# Altium integrated library Xilinx XC9500.IntLib: 208 symbols (part 5 of 16)
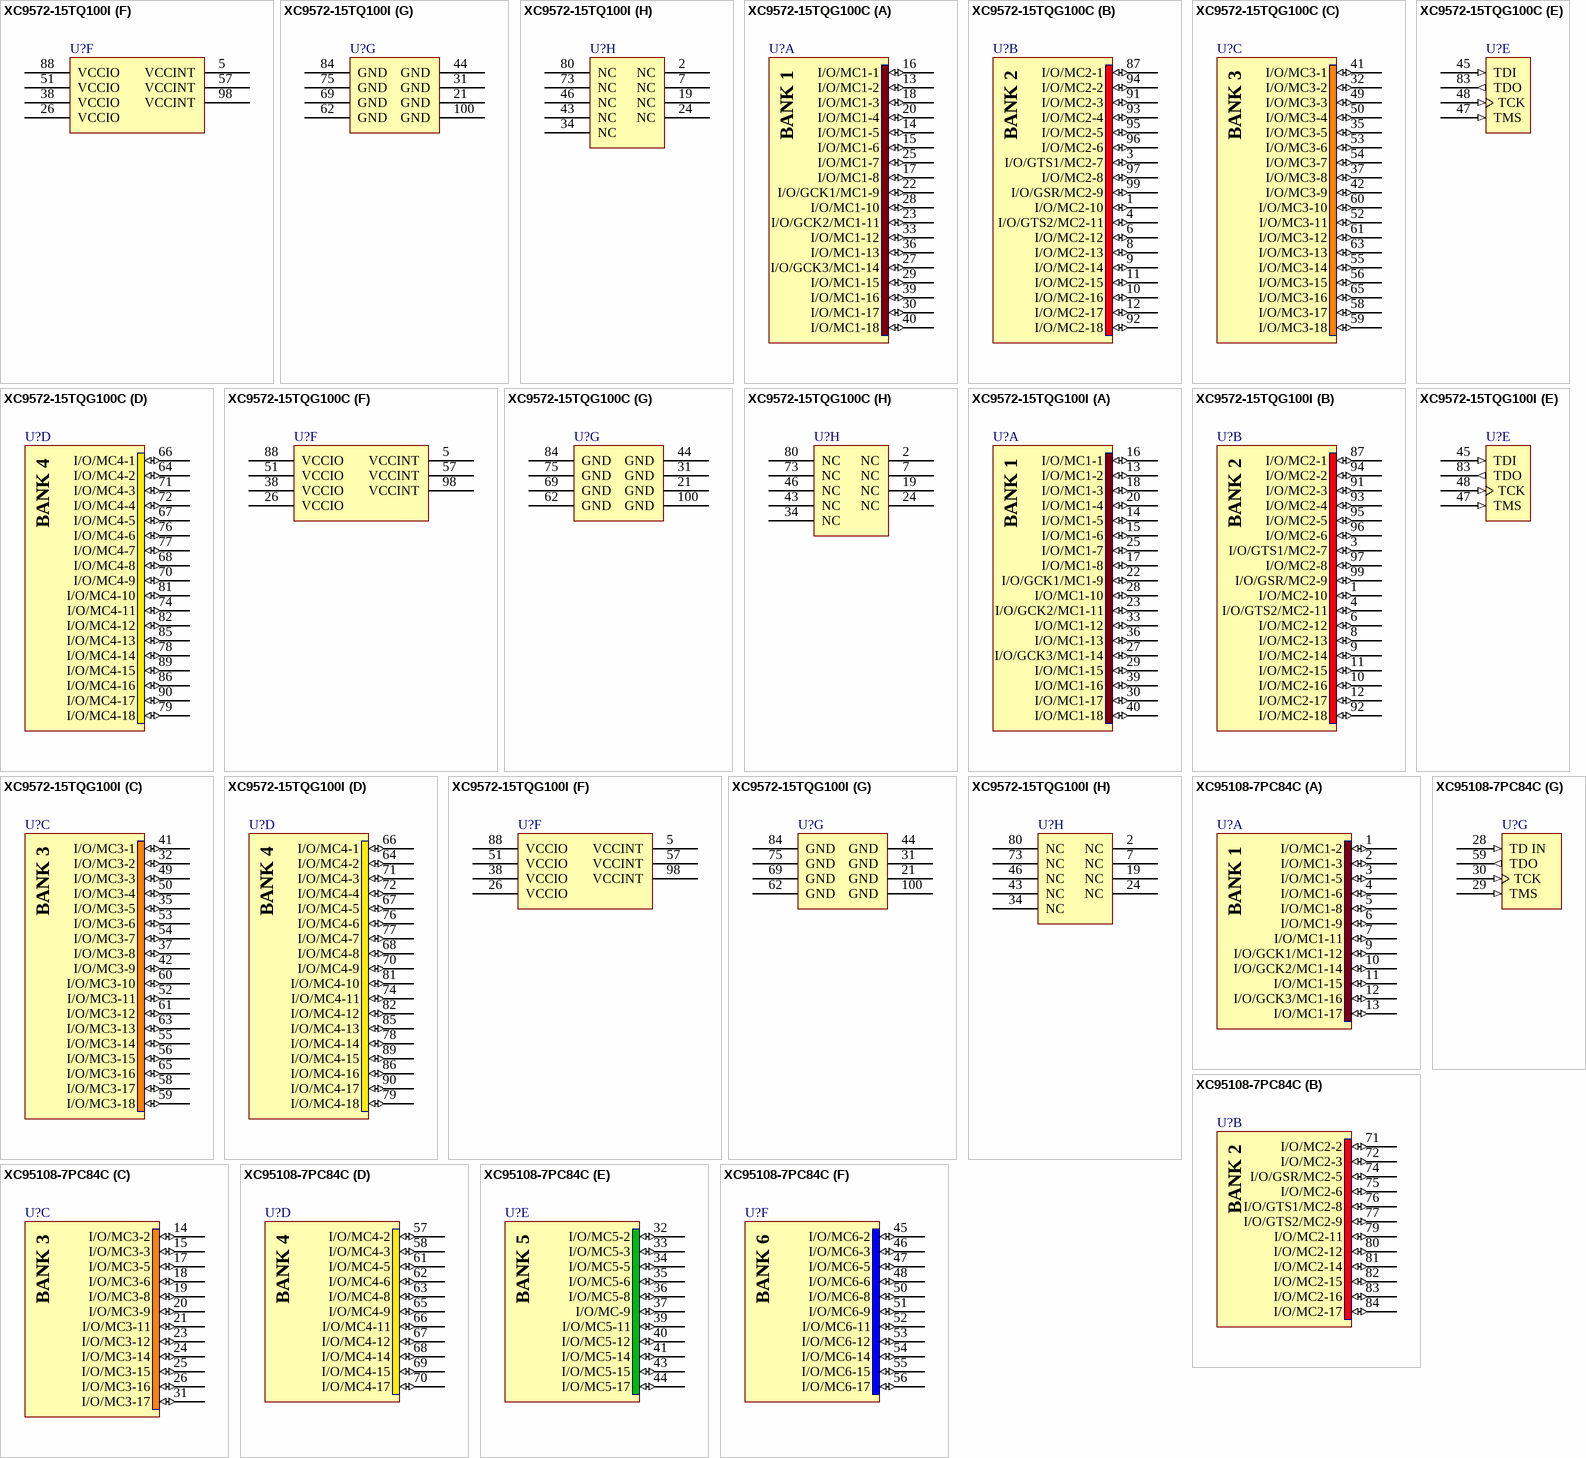
[diagram p77: symbols XC9572-15TQ100I to XC95108-7PC84C]

## XC9572-15TQ100I
designator U?
XC9500 5V, 72 Macrocell CPLD, 72 User I/Os, 100-Pin TQFP, Industrial Grade; Published: 8-Jun-2000; LatestRevisionDate: 18-Nov-2009; LatestRevisionNote: Updated to family datasheet version 5.5 Jun-2007.; DatasheetVersion: ver4.3, Apr-2006; PackageVersion: ver1.2, Jun-2004; PackageReference: TQ100; Publisher: Altium Limited; PackageDescription: 100-Pin Thin Quad Flat Pack (TQ100); Supplier 1: Digi-Key; Supplier Part Number 1: XC9572-15TQ100I-ND; ComponentLink1Description: XC9572 Datasheet; ComponentLink1URL: http://www.xilinx.com/support/documentation/data_sheets/ds065.pdf; ComponentLink2Description: TQ100 Package Drawing; ComponentLink2URL: http://www.xilinx.com/support/documentation/package_specs/tq100.pdf; ComponentLink3Description: XC9500 Documents; ComponentLink3URL: http://www.xilinx.com/support/documentation/xc9500.htm; ComponentLink4Description: Xilinx.com Home; ComponentLink4URL: http://www.xilinx.com
footprint TQ100_N (Thin QFP, 100-Leads, Body 14x14mm, Pitch 0.5mm, IPC Medium Density)
footprint TQ100_L (Thin QFP, 100-Leads, Body 14x14mm, Pitch 0.5mm, IPC High Density)
footprint TQ100_M (Thin QFP, 100-Leads, Body 14x14mm, Pitch 0.5mm, IPC Low Density)
signal-integrity model XC9572_TQ100 (XC9500)
part A pins: 13 I/O/MC1-2 (io), 14 I/O/MC1-5 (io), 15 I/O/MC1-6 (io), 16 I/O/MC1-1 (io), 17 I/O/MC1-8 (io), 18 I/O/MC1-3 (io), 20 I/O/MC1-4 (io), 22 I/O/GCK1/MC1-9 (io), 23 I/O/GCK2/MC1-11 (io), 25 I/O/MC1-7 (io), 27 I/O/GCK3/MC1-14 (io), 28 I/O/MC1-10 (io), 29 I/O/MC1-15 (io), 30 I/O/MC1-17 (io), 33 I/O/MC1-12 (io), 36 I/O/MC1-13 (io), 39 I/O/MC1-16 (io), 40 I/O/MC1-18 (io)
part B pins: 1 I/O/MC2-10 (io), 3 I/O/GTS1/MC2-7 (io), 4 I/O/GTS2/MC2-11 (io), 6 I/O/MC2-12 (io), 8 I/O/MC2-13 (io), 9 I/O/MC2-14 (io), 10 I/O/MC2-16 (io), 11 I/O/MC2-15 (io), 12 I/O/MC2-17 (io), 87 I/O/MC2-1 (io), 91 I/O/MC2-3 (io), 92 I/O/MC2-18 (io), 93 I/O/MC2-4 (io), 94 I/O/MC2-2 (io), 95 I/O/MC2-5 (io), 96 I/O/MC2-6 (io), 97 I/O/MC2-8 (io), 99 I/O/GSR/MC2-9 (io)
part C pins: 32 I/O/MC3-2 (io), 35 I/O/MC3-5 (io), 37 I/O/MC3-8 (io), 41 I/O/MC3-1 (io), 42 I/O/MC3-9 (io), 49 I/O/MC3-3 (io), 50 I/O/MC3-4 (io), 52 I/O/MC3-11 (io), 53 I/O/MC3-6 (io), 54 I/O/MC3-7 (io), 55 I/O/MC3-14 (io), 56 I/O/MC3-15 (io), 58 I/O/MC3-17 (io), 59 I/O/MC3-18 (io), 60 I/O/MC3-10 (io), 61 I/O/MC3-12 (io), 63 I/O/MC3-13 (io), 65 I/O/MC3-16 (io)
part D pins: 64 I/O/MC4-2 (io), 66 I/O/MC4-1 (io), 67 I/O/MC4-5 (io), 68 I/O/MC4-8 (io), 70 I/O/MC4-9 (io), 71 I/O/MC4-3 (io), 72 I/O/MC4-4 (io), 74 I/O/MC4-11 (io), 76 I/O/MC4-6 (io), 77 I/O/MC4-7 (io), 78 I/O/MC4-14 (io), 79 I/O/MC4-18 (io), 81 I/O/MC4-10 (io), 82 I/O/MC4-12 (io), 85 I/O/MC4-13 (io), 86 I/O/MC4-16 (io), 89 I/O/MC4-15 (io), 90 I/O/MC4-17 (io)
part E pins: 45 TDI (in), 47 TMS (in), 48 TCK (in), 83 TDO (out)
part F pins: 5 VCCINT (power), 26 VCCIO (power), 38 VCCIO (power), 51 VCCIO (power), 57 VCCINT (power), 88 VCCIO (power), 98 VCCINT (power)
part G pins: 21 GND (power), 31 GND (power), 44 GND (power), 62 GND (power), 69 GND (power), 75 GND (power), 84 GND (power), 100 GND (power)
part H pins: 2 NC, 7 NC, 19 NC, 24 NC, 34 NC, 43 NC, 46 NC, 73 NC, 80 NC
part A text: BANK 1
part B text: BANK 2
part C text: BANK 3
part D text: BANK 4

## XC9572-15TQG100C
designator U?
XC9500 5V, 72 Macrocell CPLD, 72 User I/Os, 100-Pin TQFP, Commercial Grade, Pb-Free; Published: 8-Sep-2006; LatestRevisionDate: 18-Nov-2009; LatestRevisionNote: Updated to family datasheet version 5.5 Jun-2007.; DatasheetVersion: ver4.3, Apr-2006; PackageVersion: ver1.2, Jun-2004; PackageReference: TQG100; Publisher: Altium Limited; PackageDescription: 100-Pin Thin Quad Flat Pack (TQG100) - Pb-Free; Supplier 1: Digi-Key; Supplier Part Number 1: 122-1446-ND; ComponentLink1Description: XC9572 Datasheet; ComponentLink1URL: http://www.xilinx.com/support/documentation/data_sheets/ds065.pdf; ComponentLink2Description: TQG100 Package Drawing; ComponentLink2URL: http://www.xilinx.com/support/documentation/package_specs/tq100.pdf; ComponentLink3Description: XC9500 Documents; ComponentLink3URL: http://www.xilinx.com/support/documentation/xc9500.htm; ComponentLink4Description: Xilinx.com Home; ComponentLink4URL: http://www.xilinx.com
footprint TQG100_N (Thin QFP, 100-Leads, Body 14x14mm, Pitch 0.5mm, IPC Medium Density)
footprint TQG100_L (Thin QFP, 100-Leads, Body 14x14mm, Pitch 0.5mm, IPC High Density)
footprint TQG100_M (Thin QFP, 100-Leads, Body 14x14mm, Pitch 0.5mm, IPC Low Density)
signal-integrity model XC9572_TQG100 (XC9500)
part A pins: 13 I/O/MC1-2 (io), 14 I/O/MC1-5 (io), 15 I/O/MC1-6 (io), 16 I/O/MC1-1 (io), 17 I/O/MC1-8 (io), 18 I/O/MC1-3 (io), 20 I/O/MC1-4 (io), 22 I/O/GCK1/MC1-9 (io), 23 I/O/GCK2/MC1-11 (io), 25 I/O/MC1-7 (io), 27 I/O/GCK3/MC1-14 (io), 28 I/O/MC1-10 (io), 29 I/O/MC1-15 (io), 30 I/O/MC1-17 (io), 33 I/O/MC1-12 (io), 36 I/O/MC1-13 (io), 39 I/O/MC1-16 (io), 40 I/O/MC1-18 (io)
part B pins: 1 I/O/MC2-10 (io), 3 I/O/GTS1/MC2-7 (io), 4 I/O/GTS2/MC2-11 (io), 6 I/O/MC2-12 (io), 8 I/O/MC2-13 (io), 9 I/O/MC2-14 (io), 10 I/O/MC2-16 (io), 11 I/O/MC2-15 (io), 12 I/O/MC2-17 (io), 87 I/O/MC2-1 (io), 91 I/O/MC2-3 (io), 92 I/O/MC2-18 (io), 93 I/O/MC2-4 (io), 94 I/O/MC2-2 (io), 95 I/O/MC2-5 (io), 96 I/O/MC2-6 (io), 97 I/O/MC2-8 (io), 99 I/O/GSR/MC2-9 (io)
part C pins: 32 I/O/MC3-2 (io), 35 I/O/MC3-5 (io), 37 I/O/MC3-8 (io), 41 I/O/MC3-1 (io), 42 I/O/MC3-9 (io), 49 I/O/MC3-3 (io), 50 I/O/MC3-4 (io), 52 I/O/MC3-11 (io), 53 I/O/MC3-6 (io), 54 I/O/MC3-7 (io), 55 I/O/MC3-14 (io), 56 I/O/MC3-15 (io), 58 I/O/MC3-17 (io), 59 I/O/MC3-18 (io), 60 I/O/MC3-10 (io), 61 I/O/MC3-12 (io), 63 I/O/MC3-13 (io), 65 I/O/MC3-16 (io)
part D pins: 64 I/O/MC4-2 (io), 66 I/O/MC4-1 (io), 67 I/O/MC4-5 (io), 68 I/O/MC4-8 (io), 70 I/O/MC4-9 (io), 71 I/O/MC4-3 (io), 72 I/O/MC4-4 (io), 74 I/O/MC4-11 (io), 76 I/O/MC4-6 (io), 77 I/O/MC4-7 (io), 78 I/O/MC4-14 (io), 79 I/O/MC4-18 (io), 81 I/O/MC4-10 (io), 82 I/O/MC4-12 (io), 85 I/O/MC4-13 (io), 86 I/O/MC4-16 (io), 89 I/O/MC4-15 (io), 90 I/O/MC4-17 (io)
part E pins: 45 TDI (in), 47 TMS (in), 48 TCK (in), 83 TDO (out)
part F pins: 5 VCCINT (power), 26 VCCIO (power), 38 VCCIO (power), 51 VCCIO (power), 57 VCCINT (power), 88 VCCIO (power), 98 VCCINT (power)
part G pins: 21 GND (power), 31 GND (power), 44 GND (power), 62 GND (power), 69 GND (power), 75 GND (power), 84 GND (power), 100 GND (power)
part H pins: 2 NC, 7 NC, 19 NC, 24 NC, 34 NC, 43 NC, 46 NC, 73 NC, 80 NC
part A text: BANK 1
part B text: BANK 2
part C text: BANK 3
part D text: BANK 4

## XC9572-15TQG100I
designator U?
XC9500 5V, 72 Macrocell CPLD, 72 User I/Os, 100-Pin TQFP, Industrial Grade, Pb-Free; Published: 8-Sep-2006; LatestRevisionDate: 18-Nov-2009; LatestRevisionNote: Updated to family datasheet version 5.5 Jun-2007.; DatasheetVersion: ver4.3, Apr-2006; PackageVersion: ver1.2, Jun-2004; PackageReference: TQG100; Publisher: Altium Limited; PackageDescription: 100-Pin Thin Quad Flat Pack (TQG100) - Pb-Free; Supplier 1: Digi-Key; Supplier Part Number 1: XC9572-15TQG100I-ND; ComponentLink1Description: XC9572 Datasheet; ComponentLink1URL: http://www.xilinx.com/support/documentation/data_sheets/ds065.pdf; ComponentLink2Description: TQG100 Package Drawing; ComponentLink2URL: http://www.xilinx.com/support/documentation/package_specs/tq100.pdf; ComponentLink3Description: XC9500 Documents; ComponentLink3URL: http://www.xilinx.com/support/documentation/xc9500.htm; ComponentLink4Description: Xilinx.com Home; ComponentLink4URL: http://www.xilinx.com
footprint TQG100_N (Thin QFP, 100-Leads, Body 14x14mm, Pitch 0.5mm, IPC Medium Density)
footprint TQG100_L (Thin QFP, 100-Leads, Body 14x14mm, Pitch 0.5mm, IPC High Density)
footprint TQG100_M (Thin QFP, 100-Leads, Body 14x14mm, Pitch 0.5mm, IPC Low Density)
signal-integrity model XC9572_TQG100 (XC9500)
part A pins: 13 I/O/MC1-2 (io), 14 I/O/MC1-5 (io), 15 I/O/MC1-6 (io), 16 I/O/MC1-1 (io), 17 I/O/MC1-8 (io), 18 I/O/MC1-3 (io), 20 I/O/MC1-4 (io), 22 I/O/GCK1/MC1-9 (io), 23 I/O/GCK2/MC1-11 (io), 25 I/O/MC1-7 (io), 27 I/O/GCK3/MC1-14 (io), 28 I/O/MC1-10 (io), 29 I/O/MC1-15 (io), 30 I/O/MC1-17 (io), 33 I/O/MC1-12 (io), 36 I/O/MC1-13 (io), 39 I/O/MC1-16 (io), 40 I/O/MC1-18 (io)
part B pins: 1 I/O/MC2-10 (io), 3 I/O/GTS1/MC2-7 (io), 4 I/O/GTS2/MC2-11 (io), 6 I/O/MC2-12 (io), 8 I/O/MC2-13 (io), 9 I/O/MC2-14 (io), 10 I/O/MC2-16 (io), 11 I/O/MC2-15 (io), 12 I/O/MC2-17 (io), 87 I/O/MC2-1 (io), 91 I/O/MC2-3 (io), 92 I/O/MC2-18 (io), 93 I/O/MC2-4 (io), 94 I/O/MC2-2 (io), 95 I/O/MC2-5 (io), 96 I/O/MC2-6 (io), 97 I/O/MC2-8 (io), 99 I/O/GSR/MC2-9 (io)
part C pins: 32 I/O/MC3-2 (io), 35 I/O/MC3-5 (io), 37 I/O/MC3-8 (io), 41 I/O/MC3-1 (io), 42 I/O/MC3-9 (io), 49 I/O/MC3-3 (io), 50 I/O/MC3-4 (io), 52 I/O/MC3-11 (io), 53 I/O/MC3-6 (io), 54 I/O/MC3-7 (io), 55 I/O/MC3-14 (io), 56 I/O/MC3-15 (io), 58 I/O/MC3-17 (io), 59 I/O/MC3-18 (io), 60 I/O/MC3-10 (io), 61 I/O/MC3-12 (io), 63 I/O/MC3-13 (io), 65 I/O/MC3-16 (io)
part D pins: 64 I/O/MC4-2 (io), 66 I/O/MC4-1 (io), 67 I/O/MC4-5 (io), 68 I/O/MC4-8 (io), 70 I/O/MC4-9 (io), 71 I/O/MC4-3 (io), 72 I/O/MC4-4 (io), 74 I/O/MC4-11 (io), 76 I/O/MC4-6 (io), 77 I/O/MC4-7 (io), 78 I/O/MC4-14 (io), 79 I/O/MC4-18 (io), 81 I/O/MC4-10 (io), 82 I/O/MC4-12 (io), 85 I/O/MC4-13 (io), 86 I/O/MC4-16 (io), 89 I/O/MC4-15 (io), 90 I/O/MC4-17 (io)
part E pins: 45 TDI (in), 47 TMS (in), 48 TCK (in), 83 TDO (out)
part F pins: 5 VCCINT (power), 26 VCCIO (power), 38 VCCIO (power), 51 VCCIO (power), 57 VCCINT (power), 88 VCCIO (power), 98 VCCINT (power)
part G pins: 21 GND (power), 31 GND (power), 44 GND (power), 62 GND (power), 69 GND (power), 75 GND (power), 84 GND (power), 100 GND (power)
part H pins: 2 NC, 7 NC, 19 NC, 24 NC, 34 NC, 43 NC, 46 NC, 73 NC, 80 NC
part A text: BANK 1
part B text: BANK 2
part C text: BANK 3
part D text: BANK 4

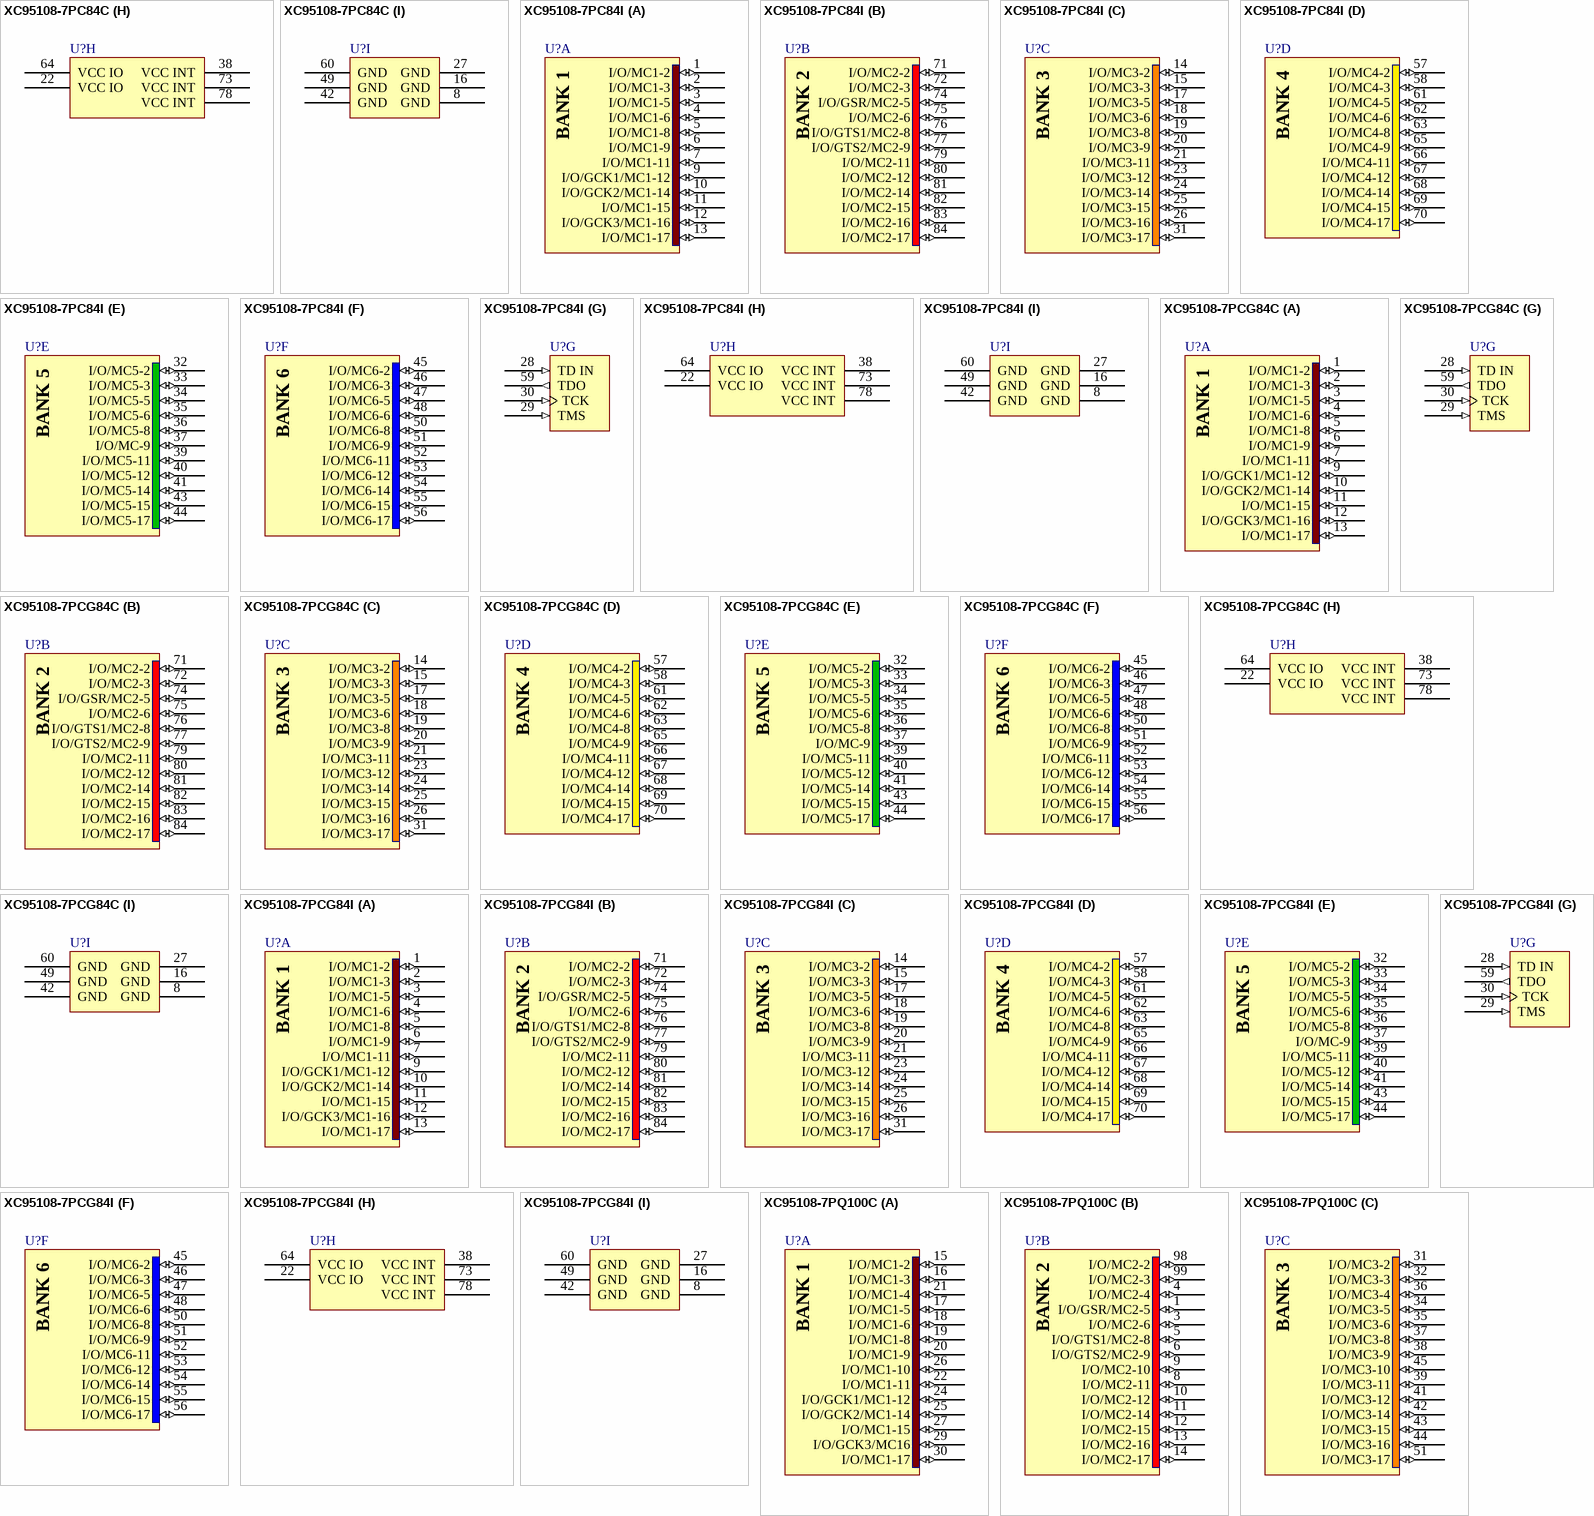
[diagram p19: symbols XC95108-7PC84C to XC95108-7PQ100C]

## XC95108-7PC84C
designator U?
XC9500 5V, 108 Macrocell CPLD, 69 User I/Os, 84-Pin PLCC, Commercial Grade; Published: 8-Jun-2000; LatestRevisionDate: 18-Nov-2009; LatestRevisionNote: Updated to family datasheet version 5.5 Jun-2007.; DatasheetVersion: ver4.4, Apr-2006; PackageVersion: ver1.2, Jun-2004; PackageReference: PC84; Publisher: Altium Limited; PackageDescription: 84-Pin Plastic Leaded Chip Carrier (PC84); Supplier 1: Digi-Key; Supplier Part Number 1: 122-1176-ND; Code_JEDEC: MS-047; Code_IPC: PLCC-84; ComponentLink1Description: XC95108 Datasheet; ComponentLink1URL: http://www.xilinx.com/support/documentation/data_sheets/DS066.pdf; ComponentLink2Description: PC84 Package Drawing; ComponentLink2URL: http://www.xilinx.com/support/documentation/package_specs/pc84.pdf; ComponentLink3Description: XC9500 Documents; ComponentLink3URL: http://www.xilinx.com/support/documentation/xc9500.htm; ComponentLink4Description: Xilinx.com Home; ComponentLink4URL: http://www.xilinx.com
footprint PC84_N (Leaded Chip Carrier, 84-Leads, Body 29.3x29.3mm, Pitch 1.27mm, IPC Medium Density)
footprint PC84_L (Leaded Chip Carrier, 84-Leads, Body 29.3x29.3mm, Pitch 1.27mm, IPC High Density)
footprint PC84_M (Leaded Chip Carrier, 84-Leads, Body 29.3x29.3mm, Pitch 1.27mm, IPC Low Density)
signal-integrity model XC95108_PLCC84 (XC9500)
part A pins: 1 I/O/MC1-2 (io), 2 I/O/MC1-3 (io), 3 I/O/MC1-5 (io), 4 I/O/MC1-6 (io), 5 I/O/MC1-8 (io), 6 I/O/MC1-9 (io), 7 I/O/MC1-11 (io), 9 I/O/GCK1/MC1-12 (io), 10 I/O/GCK2/MC1-14 (io), 11 I/O/MC1-15 (io), 12 I/O/GCK3/MC1-16 (io), 13 I/O/MC1-17 (io)
part B pins: 71 I/O/MC2-2 (io), 72 I/O/MC2-3 (io), 74 I/O/GSR/MC2-5 (io), 75 I/O/MC2-6 (io), 76 I/O/GTS1/MC2-8 (io), 77 I/O/GTS2/MC2-9 (io), 79 I/O/MC2-11 (io), 80 I/O/MC2-12 (io), 81 I/O/MC2-14 (io), 82 I/O/MC2-15 (io), 83 I/O/MC2-16 (io), 84 I/O/MC2-17 (io)
part C pins: 14 I/O/MC3-2 (io), 15 I/O/MC3-3 (io), 17 I/O/MC3-5 (io), 18 I/O/MC3-6 (io), 19 I/O/MC3-8 (io), 20 I/O/MC3-9 (io), 21 I/O/MC3-11 (io), 23 I/O/MC3-12 (io), 24 I/O/MC3-14 (io), 25 I/O/MC3-15 (io), 26 I/O/MC3-16 (io), 31 I/O/MC3-17 (io)
part D pins: 57 I/O/MC4-2 (io), 58 I/O/MC4-3 (io), 61 I/O/MC4-5 (io), 62 I/O/MC4-6 (io), 63 I/O/MC4-8 (io), 65 I/O/MC4-9 (io), 66 I/O/MC4-11 (io), 67 I/O/MC4-12 (io), 68 I/O/MC4-14 (io), 69 I/O/MC4-15 (io), 70 I/O/MC4-17 (io)
part E pins: 32 I/O/MC5-2 (io), 33 I/O/MC5-3 (io), 34 I/O/MC5-5 (io), 35 I/O/MC5-6 (io), 36 I/O/MC5-8 (io), 37 I/O/MC-9 (io), 39 I/O/MC5-11 (io), 40 I/O/MC5-12 (io), 41 I/O/MC5-14 (io), 43 I/O/MC5-15 (io), 44 I/O/MC5-17 (io)
part F pins: 45 I/O/MC6-2 (io), 46 I/O/MC6-3 (io), 47 I/O/MC6-5 (io), 48 I/O/MC6-6 (io), 50 I/O/MC6-8 (io), 51 I/O/MC6-9 (io), 52 I/O/MC6-11 (io), 53 I/O/MC6-12 (io), 54 I/O/MC6-14 (io), 55 I/O/MC6-15 (io), 56 I/O/MC6-17 (io)
part G pins: 28 TD IN (in), 29 TMS (in), 30 TCK (in), 59 TDO (out)
part H pins: 22 VCC IO (power), 38 VCC INT (power), 64 VCC IO (power), 73 VCC INT (power), 78 VCC INT (power)
part I pins: 8 GND (power), 16 GND (power), 27 GND (power), 42 GND (power), 49 GND (power), 60 GND (power)
part A text: BANK 1
part B text: BANK 2
part C text: BANK 3
part D text: BANK 4
part E text: BANK 5
part F text: BANK 6

## XC95108-7PC84I
designator U?
XC9500 5V, 108 Macrocell CPLD, 69 User I/Os, 84-Pin PLCC, Industrial Grade; Published: 17-Sep-2003; LatestRevisionDate: 18-Nov-2009; LatestRevisionNote: Updated to family datasheet version 5.5 Jun-2007.; DatasheetVersion: ver4.4, Apr-2006; PackageVersion: ver1.2, Jun-2004; PackageReference: PC84; Publisher: Altium Limited; PackageDescription: 84-Pin Plastic Leaded Chip Carrier (PC84); Supplier 1: Digi-Key; Supplier Part Number 1: 122-1247-ND; Code_JEDEC: MS-047; Code_IPC: PLCC-84; ComponentLink1Description: XC95108 Datasheet; ComponentLink1URL: http://www.xilinx.com/support/documentation/data_sheets/DS066.pdf; ComponentLink2Description: PC84 Package Drawing; ComponentLink2URL: http://www.xilinx.com/support/documentation/package_specs/pc84.pdf; ComponentLink3Description: XC9500 Documents; ComponentLink3URL: http://www.xilinx.com/support/documentation/xc9500.htm; ComponentLink4Description: Xilinx.com Home; ComponentLink4URL: http://www.xilinx.com
footprint PC84_N (Leaded Chip Carrier, 84-Leads, Body 29.3x29.3mm, Pitch 1.27mm, IPC Medium Density)
footprint PC84_L (Leaded Chip Carrier, 84-Leads, Body 29.3x29.3mm, Pitch 1.27mm, IPC High Density)
footprint PC84_M (Leaded Chip Carrier, 84-Leads, Body 29.3x29.3mm, Pitch 1.27mm, IPC Low Density)
signal-integrity model XC95108_PLCC84 (XC9500)
part A pins: 1 I/O/MC1-2 (io), 2 I/O/MC1-3 (io), 3 I/O/MC1-5 (io), 4 I/O/MC1-6 (io), 5 I/O/MC1-8 (io), 6 I/O/MC1-9 (io), 7 I/O/MC1-11 (io), 9 I/O/GCK1/MC1-12 (io), 10 I/O/GCK2/MC1-14 (io), 11 I/O/MC1-15 (io), 12 I/O/GCK3/MC1-16 (io), 13 I/O/MC1-17 (io)
part B pins: 71 I/O/MC2-2 (io), 72 I/O/MC2-3 (io), 74 I/O/GSR/MC2-5 (io), 75 I/O/MC2-6 (io), 76 I/O/GTS1/MC2-8 (io), 77 I/O/GTS2/MC2-9 (io), 79 I/O/MC2-11 (io), 80 I/O/MC2-12 (io), 81 I/O/MC2-14 (io), 82 I/O/MC2-15 (io), 83 I/O/MC2-16 (io), 84 I/O/MC2-17 (io)
part C pins: 14 I/O/MC3-2 (io), 15 I/O/MC3-3 (io), 17 I/O/MC3-5 (io), 18 I/O/MC3-6 (io), 19 I/O/MC3-8 (io), 20 I/O/MC3-9 (io), 21 I/O/MC3-11 (io), 23 I/O/MC3-12 (io), 24 I/O/MC3-14 (io), 25 I/O/MC3-15 (io), 26 I/O/MC3-16 (io), 31 I/O/MC3-17 (io)
part D pins: 57 I/O/MC4-2 (io), 58 I/O/MC4-3 (io), 61 I/O/MC4-5 (io), 62 I/O/MC4-6 (io), 63 I/O/MC4-8 (io), 65 I/O/MC4-9 (io), 66 I/O/MC4-11 (io), 67 I/O/MC4-12 (io), 68 I/O/MC4-14 (io), 69 I/O/MC4-15 (io), 70 I/O/MC4-17 (io)
part E pins: 32 I/O/MC5-2 (io), 33 I/O/MC5-3 (io), 34 I/O/MC5-5 (io), 35 I/O/MC5-6 (io), 36 I/O/MC5-8 (io), 37 I/O/MC-9 (io), 39 I/O/MC5-11 (io), 40 I/O/MC5-12 (io), 41 I/O/MC5-14 (io), 43 I/O/MC5-15 (io), 44 I/O/MC5-17 (io)
part F pins: 45 I/O/MC6-2 (io), 46 I/O/MC6-3 (io), 47 I/O/MC6-5 (io), 48 I/O/MC6-6 (io), 50 I/O/MC6-8 (io), 51 I/O/MC6-9 (io), 52 I/O/MC6-11 (io), 53 I/O/MC6-12 (io), 54 I/O/MC6-14 (io), 55 I/O/MC6-15 (io), 56 I/O/MC6-17 (io)
part G pins: 28 TD IN (in), 29 TMS (in), 30 TCK (in), 59 TDO (out)
part H pins: 22 VCC IO (power), 38 VCC INT (power), 64 VCC IO (power), 73 VCC INT (power), 78 VCC INT (power)
part I pins: 8 GND (power), 16 GND (power), 27 GND (power), 42 GND (power), 49 GND (power), 60 GND (power)
part A text: BANK 1
part B text: BANK 2
part C text: BANK 3
part D text: BANK 4
part E text: BANK 5
part F text: BANK 6

## XC95108-7PCG84C
designator U?
XC9500 5V, 108 Macrocell CPLD, 69 User I/Os, 84-Pin PLCC, Commercial Grade, Pb-Free; Published: 8-Sep-2006; LatestRevisionDate: 18-Nov-2009; LatestRevisionNote: Updated to family datasheet version 5.5 Jun-2007.; DatasheetVersion: ver4.4, Apr-2006; PackageVersion: ver1.2, Jun-2004; PackageReference: PCG84; Publisher: Altium Limited; PackageDescription: 84-Pin Plastic Leaded Chip Carrier (PCG84) - Pb-Free; Code_JEDEC: MS-047; Code_IPC: PLCC-84; ComponentLink1Description: XC95108 Datasheet; ComponentLink1URL: http://www.xilinx.com/support/documentation/data_sheets/DS066.pdf; ComponentLink2Description: PCG84 Package Drawing; ComponentLink2URL: http://www.xilinx.com/support/documentation/package_specs/pc84.pdf; ComponentLink3Description: XC9500 Documents; ComponentLink3URL: http://www.xilinx.com/support/documentation/xc9500.htm; ComponentLink4Description: Xilinx.com Home; ComponentLink4URL: http://www.xilinx.com
footprint PCG84_N (Leaded Chip Carrier, 84-Leads, Body 29.3x29.3mm, Pitch 1.27mm, IPC Medium Density)
footprint PCG84_L (Leaded Chip Carrier, 84-Leads, Body 29.3x29.3mm, Pitch 1.27mm, IPC High Density)
footprint PCG84_M (Leaded Chip Carrier, 84-Leads, Body 29.3x29.3mm, Pitch 1.27mm, IPC Low Density)
signal-integrity model XC95108_PCG84 (XC9500)
part A pins: 1 I/O/MC1-2 (io), 2 I/O/MC1-3 (io), 3 I/O/MC1-5 (io), 4 I/O/MC1-6 (io), 5 I/O/MC1-8 (io), 6 I/O/MC1-9 (io), 7 I/O/MC1-11 (io), 9 I/O/GCK1/MC1-12 (io), 10 I/O/GCK2/MC1-14 (io), 11 I/O/MC1-15 (io), 12 I/O/GCK3/MC1-16 (io), 13 I/O/MC1-17 (io)
part B pins: 71 I/O/MC2-2 (io), 72 I/O/MC2-3 (io), 74 I/O/GSR/MC2-5 (io), 75 I/O/MC2-6 (io), 76 I/O/GTS1/MC2-8 (io), 77 I/O/GTS2/MC2-9 (io), 79 I/O/MC2-11 (io), 80 I/O/MC2-12 (io), 81 I/O/MC2-14 (io), 82 I/O/MC2-15 (io), 83 I/O/MC2-16 (io), 84 I/O/MC2-17 (io)
part C pins: 14 I/O/MC3-2 (io), 15 I/O/MC3-3 (io), 17 I/O/MC3-5 (io), 18 I/O/MC3-6 (io), 19 I/O/MC3-8 (io), 20 I/O/MC3-9 (io), 21 I/O/MC3-11 (io), 23 I/O/MC3-12 (io), 24 I/O/MC3-14 (io), 25 I/O/MC3-15 (io), 26 I/O/MC3-16 (io), 31 I/O/MC3-17 (io)
part D pins: 57 I/O/MC4-2 (io), 58 I/O/MC4-3 (io), 61 I/O/MC4-5 (io), 62 I/O/MC4-6 (io), 63 I/O/MC4-8 (io), 65 I/O/MC4-9 (io), 66 I/O/MC4-11 (io), 67 I/O/MC4-12 (io), 68 I/O/MC4-14 (io), 69 I/O/MC4-15 (io), 70 I/O/MC4-17 (io)
part E pins: 32 I/O/MC5-2 (io), 33 I/O/MC5-3 (io), 34 I/O/MC5-5 (io), 35 I/O/MC5-6 (io), 36 I/O/MC5-8 (io), 37 I/O/MC-9 (io), 39 I/O/MC5-11 (io), 40 I/O/MC5-12 (io), 41 I/O/MC5-14 (io), 43 I/O/MC5-15 (io), 44 I/O/MC5-17 (io)
part F pins: 45 I/O/MC6-2 (io), 46 I/O/MC6-3 (io), 47 I/O/MC6-5 (io), 48 I/O/MC6-6 (io), 50 I/O/MC6-8 (io), 51 I/O/MC6-9 (io), 52 I/O/MC6-11 (io), 53 I/O/MC6-12 (io), 54 I/O/MC6-14 (io), 55 I/O/MC6-15 (io), 56 I/O/MC6-17 (io)
part G pins: 28 TD IN (in), 29 TMS (in), 30 TCK (in), 59 TDO (out)
part H pins: 22 VCC IO (power), 38 VCC INT (power), 64 VCC IO (power), 73 VCC INT (power), 78 VCC INT (power)
part I pins: 8 GND (power), 16 GND (power), 27 GND (power), 42 GND (power), 49 GND (power), 60 GND (power)
part A text: BANK 1
part B text: BANK 2
part C text: BANK 3
part D text: BANK 4
part E text: BANK 5
part F text: BANK 6

## XC95108-7PCG84I
designator U?
XC9500 5V, 108 Macrocell CPLD, 69 User I/Os, 84-Pin PLCC, Industrial Grade, Pb-Free; Published: 8-Sep-2006; LatestRevisionDate: 18-Nov-2009; LatestRevisionNote: Updated to family datasheet version 5.5 Jun-2007.; DatasheetVersion: ver4.4, Apr-2006; PackageVersion: ver1.2, Jun-2004; PackageReference: PCG84; Publisher: Altium Limited; PackageDescription: 84-Pin Plastic Leaded Chip Carrier (PCG84) - Pb-Free; Code_JEDEC: MS-047; Code_IPC: PLCC-84; ComponentLink1Description: XC95108 Datasheet; ComponentLink1URL: http://www.xilinx.com/support/documentation/data_sheets/DS066.pdf; ComponentLink2Description: PCG84 Package Drawing; ComponentLink2URL: http://www.xilinx.com/support/documentation/package_specs/pc84.pdf; ComponentLink3Description: XC9500 Documents; ComponentLink3URL: http://www.xilinx.com/support/documentation/xc9500.htm; ComponentLink4Description: Xilinx.com Home; ComponentLink4URL: http://www.xilinx.com
footprint PCG84_N (Leaded Chip Carrier, 84-Leads, Body 29.3x29.3mm, Pitch 1.27mm, IPC Medium Density)
footprint PCG84_L (Leaded Chip Carrier, 84-Leads, Body 29.3x29.3mm, Pitch 1.27mm, IPC High Density)
footprint PCG84_M (Leaded Chip Carrier, 84-Leads, Body 29.3x29.3mm, Pitch 1.27mm, IPC Low Density)
signal-integrity model XC95108_PCG84 (XC9500)
part A pins: 1 I/O/MC1-2 (io), 2 I/O/MC1-3 (io), 3 I/O/MC1-5 (io), 4 I/O/MC1-6 (io), 5 I/O/MC1-8 (io), 6 I/O/MC1-9 (io), 7 I/O/MC1-11 (io), 9 I/O/GCK1/MC1-12 (io), 10 I/O/GCK2/MC1-14 (io), 11 I/O/MC1-15 (io), 12 I/O/GCK3/MC1-16 (io), 13 I/O/MC1-17 (io)
part B pins: 71 I/O/MC2-2 (io), 72 I/O/MC2-3 (io), 74 I/O/GSR/MC2-5 (io), 75 I/O/MC2-6 (io), 76 I/O/GTS1/MC2-8 (io), 77 I/O/GTS2/MC2-9 (io), 79 I/O/MC2-11 (io), 80 I/O/MC2-12 (io), 81 I/O/MC2-14 (io), 82 I/O/MC2-15 (io), 83 I/O/MC2-16 (io), 84 I/O/MC2-17 (io)
part C pins: 14 I/O/MC3-2 (io), 15 I/O/MC3-3 (io), 17 I/O/MC3-5 (io), 18 I/O/MC3-6 (io), 19 I/O/MC3-8 (io), 20 I/O/MC3-9 (io), 21 I/O/MC3-11 (io), 23 I/O/MC3-12 (io), 24 I/O/MC3-14 (io), 25 I/O/MC3-15 (io), 26 I/O/MC3-16 (io), 31 I/O/MC3-17 (io)
part D pins: 57 I/O/MC4-2 (io), 58 I/O/MC4-3 (io), 61 I/O/MC4-5 (io), 62 I/O/MC4-6 (io), 63 I/O/MC4-8 (io), 65 I/O/MC4-9 (io), 66 I/O/MC4-11 (io), 67 I/O/MC4-12 (io), 68 I/O/MC4-14 (io), 69 I/O/MC4-15 (io), 70 I/O/MC4-17 (io)
part E pins: 32 I/O/MC5-2 (io), 33 I/O/MC5-3 (io), 34 I/O/MC5-5 (io), 35 I/O/MC5-6 (io), 36 I/O/MC5-8 (io), 37 I/O/MC-9 (io), 39 I/O/MC5-11 (io), 40 I/O/MC5-12 (io), 41 I/O/MC5-14 (io), 43 I/O/MC5-15 (io), 44 I/O/MC5-17 (io)
part F pins: 45 I/O/MC6-2 (io), 46 I/O/MC6-3 (io), 47 I/O/MC6-5 (io), 48 I/O/MC6-6 (io), 50 I/O/MC6-8 (io), 51 I/O/MC6-9 (io), 52 I/O/MC6-11 (io), 53 I/O/MC6-12 (io), 54 I/O/MC6-14 (io), 55 I/O/MC6-15 (io), 56 I/O/MC6-17 (io)
part G pins: 28 TD IN (in), 29 TMS (in), 30 TCK (in), 59 TDO (out)
part H pins: 22 VCC IO (power), 38 VCC INT (power), 64 VCC IO (power), 73 VCC INT (power), 78 VCC INT (power)
part I pins: 8 GND (power), 16 GND (power), 27 GND (power), 42 GND (power), 49 GND (power), 60 GND (power)
part A text: BANK 1
part B text: BANK 2
part C text: BANK 3
part D text: BANK 4
part E text: BANK 5
part F text: BANK 6

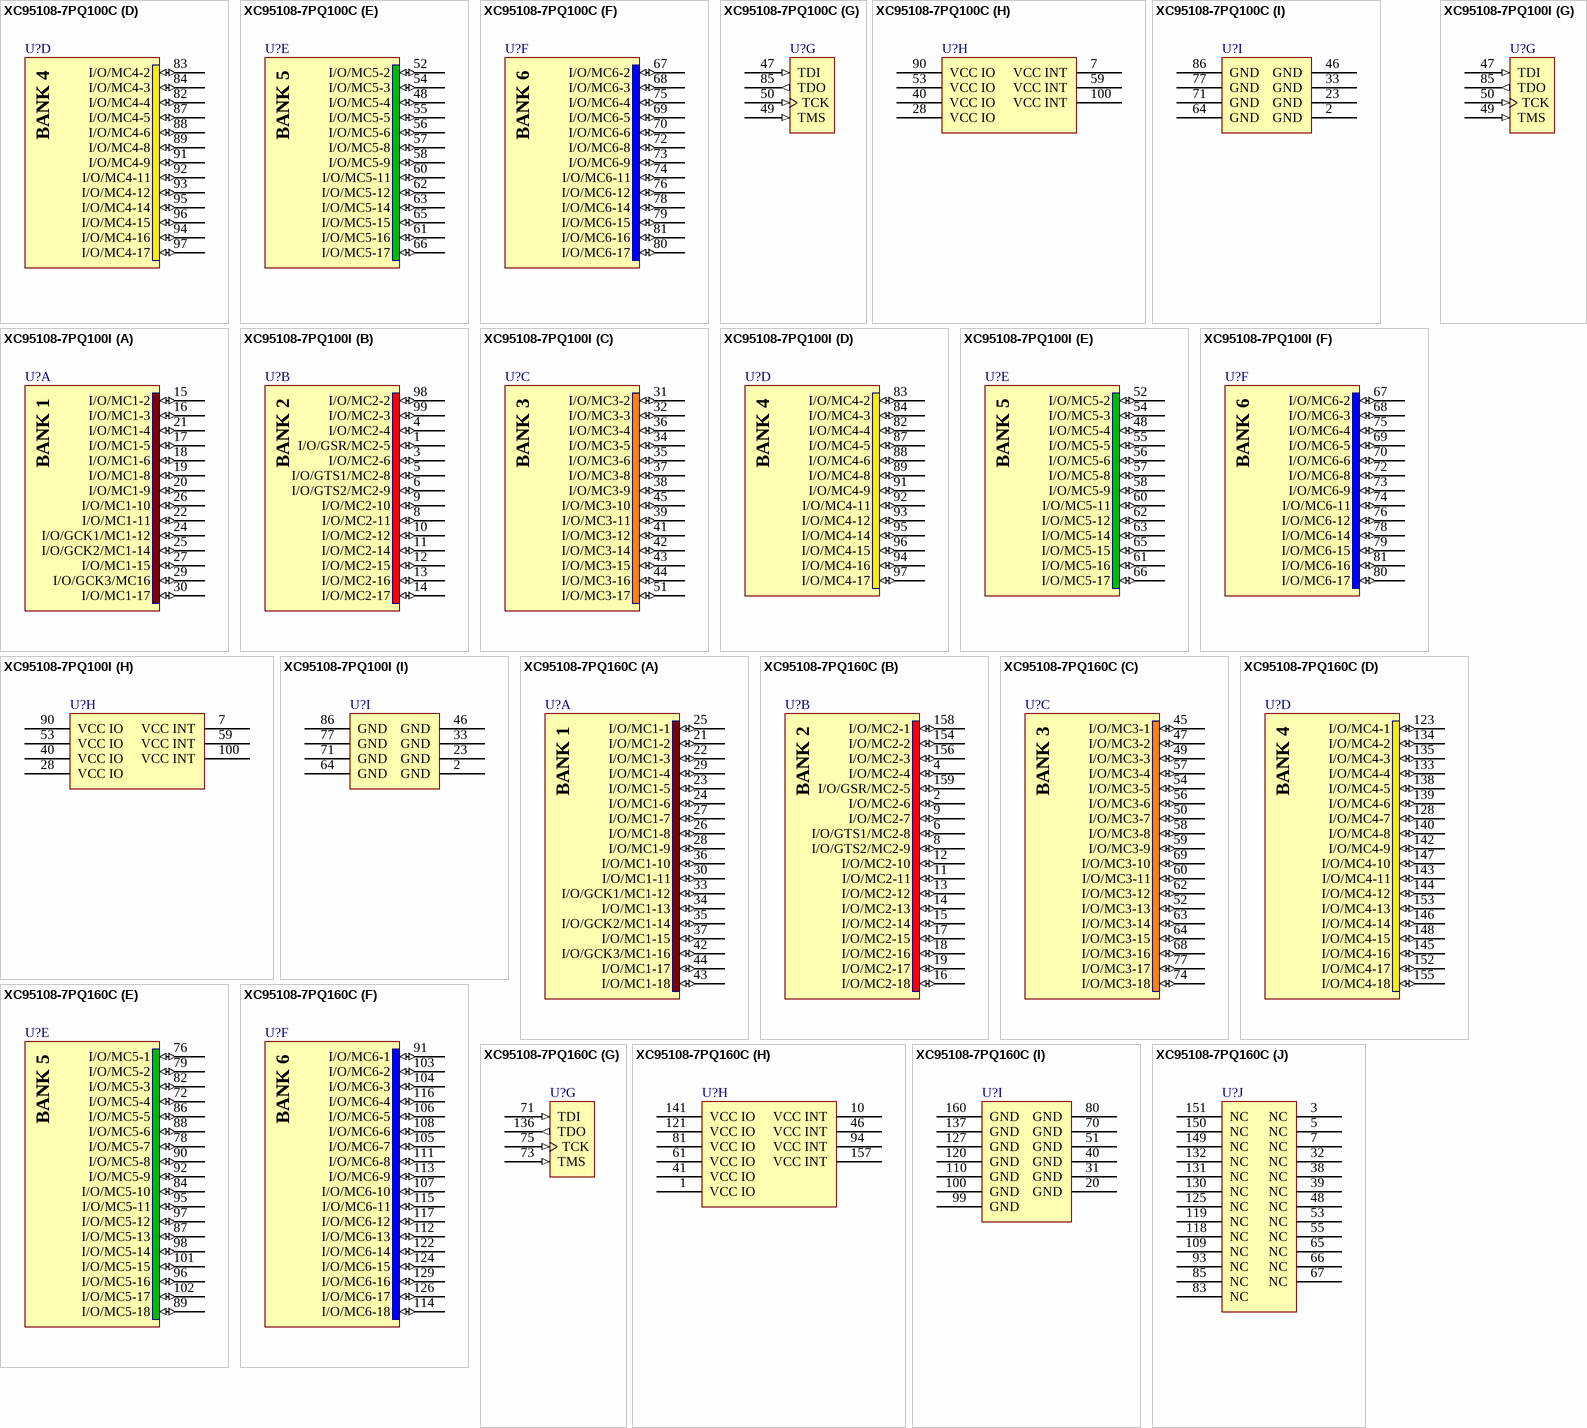
[diagram p20: symbols XC95108-7PQ100C to XC95108-7PQ160C]

## XC95108-7PQ100C
designator U?
XC9500 5V, 108 Macrocell CPLD, 81 User I/Os, 100-Pin PQFP, Commercial Grade; Published: 8-Jun-2000; LatestRevisionDate: 18-Nov-2009; LatestRevisionNote: Updated to family datasheet version 5.5 Jun-2007.; DatasheetVersion: ver4.4, Apr-2006; PackageVersion: ver1.2, Oct-2002; PackageReference: PQ100; Publisher: Altium Limited; PackageDescription: 100-Pin Plastic Quad Flat Pack (PQ100); Supplier 1: Digi-Key; Supplier Part Number 1: 122-1179-ND; Code_IPC: QFP65P1720X2320-100; ComponentLink1Description: XC95108 Datasheet; ComponentLink1URL: http://www.xilinx.com/support/documentation/data_sheets/DS066.pdf; ComponentLink2Description: PQ100 Package Drawing; ComponentLink2URL: http://www.xilinx.com/support/documentation/package_specs/pq100.pdf; ComponentLink3Description: XC9500 Documents; ComponentLink3URL: http://www.xilinx.com/support/documentation/xc9500.htm; ComponentLink4Description: Xilinx.com Home; ComponentLink4URL: http://www.xilinx.com
footprint PQ100_N (QFP, 100-Leads, Body 20x14mm, Pitch 0.65mm, IPC Medium Density)
footprint PQ100_L (QFP, 100-Leads, Body 20x14mm, Pitch 0.65mm, IPC High Density)
footprint PQ100_M (QFP, 100-Leads, Body 20x14mm, Pitch 0.65mm, IPC Low Density)
signal-integrity model XC95108_PQ100 (XC9500)
part A pins: 15 I/O/MC1-2 (io), 16 I/O/MC1-3 (io), 17 I/O/MC1-5 (io), 18 I/O/MC1-6 (io), 19 I/O/MC1-8 (io), 20 I/O/MC1-9 (io), 21 I/O/MC1-4 (io), 22 I/O/MC1-11 (io), 24 I/O/GCK1/MC1-12 (io), 25 I/O/GCK2/MC1-14 (io), 26 I/O/MC1-10 (io), 27 I/O/MC1-15 (io), 29 I/O/GCK3/MC16 (io), 30 I/O/MC1-17 (io)
part B pins: 1 I/O/GSR/MC2-5 (io), 3 I/O/MC2-6 (io), 4 I/O/MC2-4 (io), 5 I/O/GTS1/MC2-8 (io), 6 I/O/GTS2/MC2-9 (io), 8 I/O/MC2-11 (io), 9 I/O/MC2-10 (io), 10 I/O/MC2-12 (io), 11 I/O/MC2-14 (io), 12 I/O/MC2-15 (io), 13 I/O/MC2-16 (io), 14 I/O/MC2-17 (io), 98 I/O/MC2-2 (io), 99 I/O/MC2-3 (io)
part C pins: 31 I/O/MC3-2 (io), 32 I/O/MC3-3 (io), 34 I/O/MC3-5 (io), 35 I/O/MC3-6 (io), 36 I/O/MC3-4 (io), 37 I/O/MC3-8 (io), 38 I/O/MC3-9 (io), 39 I/O/MC3-11 (io), 41 I/O/MC3-12 (io), 42 I/O/MC3-14 (io), 43 I/O/MC3-15 (io), 44 I/O/MC3-16 (io), 45 I/O/MC3-10 (io), 51 I/O/MC3-17 (io)
part D pins: 82 I/O/MC4-4 (io), 83 I/O/MC4-2 (io), 84 I/O/MC4-3 (io), 87 I/O/MC4-5 (io), 88 I/O/MC4-6 (io), 89 I/O/MC4-8 (io), 91 I/O/MC4-9 (io), 92 I/O/MC4-11 (io), 93 I/O/MC4-12 (io), 94 I/O/MC4-16 (io), 95 I/O/MC4-14 (io), 96 I/O/MC4-15 (io), 97 I/O/MC4-17 (io)
part E pins: 48 I/O/MC5-4 (io), 52 I/O/MC5-2 (io), 54 I/O/MC5-3 (io), 55 I/O/MC5-5 (io), 56 I/O/MC5-6 (io), 57 I/O/MC5-8 (io), 58 I/O/MC5-9 (io), 60 I/O/MC5-11 (io), 61 I/O/MC5-16 (io), 62 I/O/MC5-12 (io), 63 I/O/MC5-14 (io), 65 I/O/MC5-15 (io), 66 I/O/MC5-17 (io)
part F pins: 67 I/O/MC6-2 (io), 68 I/O/MC6-3 (io), 69 I/O/MC6-5 (io), 70 I/O/MC6-6 (io), 72 I/O/MC6-8 (io), 73 I/O/MC6-9 (io), 74 I/O/MC6-11 (io), 75 I/O/MC6-4 (io), 76 I/O/MC6-12 (io), 78 I/O/MC6-14 (io), 79 I/O/MC6-15 (io), 80 I/O/MC6-17 (io), 81 I/O/MC6-16 (io)
part G pins: 47 TDI (in), 49 TMS (in), 50 TCK (in), 85 TDO (out)
part H pins: 7 VCC INT (power), 28 VCC IO (power), 40 VCC IO (power), 53 VCC IO (power), 59 VCC INT (power), 90 VCC IO (power), 100 VCC INT (power)
part I pins: 2 GND (power), 23 GND (power), 33 GND (power), 46 GND (power), 64 GND (power), 71 GND (power), 77 GND (power), 86 GND (power)
part A text: BANK 1
part B text: BANK 2
part C text: BANK 3
part D text: BANK 4
part E text: BANK 5
part F text: BANK 6

## XC95108-7PQ100I
designator U?
XC9500 5V, 108 Macrocell CPLD, 81 User I/Os, 100-Pin PQFP, Industrial Grade; Published: 17-Sep-2003; LatestRevisionDate: 18-Nov-2009; LatestRevisionNote: Updated to family datasheet version 5.5 Jun-2007.; DatasheetVersion: ver4.4, Apr-2006; PackageVersion: ver1.2, Oct-2002; PackageReference: PQ100; Publisher: Altium Limited; PackageDescription: 100-Pin Plastic Quad Flat Pack (PQ100); Supplier 1: Digi-Key; Supplier Part Number 1: XC95108-7PQ100I-ND; Code_IPC: QFP65P1720X2320-100; ComponentLink1Description: XC95108 Datasheet; ComponentLink1URL: http://www.xilinx.com/support/documentation/data_sheets/DS066.pdf; ComponentLink2Description: PQ100 Package Drawing; ComponentLink2URL: http://www.xilinx.com/support/documentation/package_specs/pq100.pdf; ComponentLink3Description: XC9500 Documents; ComponentLink3URL: http://www.xilinx.com/support/documentation/xc9500.htm; ComponentLink4Description: Xilinx.com Home; ComponentLink4URL: http://www.xilinx.com
footprint PQ100_N (QFP, 100-Leads, Body 20x14mm, Pitch 0.65mm, IPC Medium Density)
footprint PQ100_L (QFP, 100-Leads, Body 20x14mm, Pitch 0.65mm, IPC High Density)
footprint PQ100_M (QFP, 100-Leads, Body 20x14mm, Pitch 0.65mm, IPC Low Density)
signal-integrity model XC95108_PQ100 (XC9500)
part A pins: 15 I/O/MC1-2 (io), 16 I/O/MC1-3 (io), 17 I/O/MC1-5 (io), 18 I/O/MC1-6 (io), 19 I/O/MC1-8 (io), 20 I/O/MC1-9 (io), 21 I/O/MC1-4 (io), 22 I/O/MC1-11 (io), 24 I/O/GCK1/MC1-12 (io), 25 I/O/GCK2/MC1-14 (io), 26 I/O/MC1-10 (io), 27 I/O/MC1-15 (io), 29 I/O/GCK3/MC16 (io), 30 I/O/MC1-17 (io)
part B pins: 1 I/O/GSR/MC2-5 (io), 3 I/O/MC2-6 (io), 4 I/O/MC2-4 (io), 5 I/O/GTS1/MC2-8 (io), 6 I/O/GTS2/MC2-9 (io), 8 I/O/MC2-11 (io), 9 I/O/MC2-10 (io), 10 I/O/MC2-12 (io), 11 I/O/MC2-14 (io), 12 I/O/MC2-15 (io), 13 I/O/MC2-16 (io), 14 I/O/MC2-17 (io), 98 I/O/MC2-2 (io), 99 I/O/MC2-3 (io)
part C pins: 31 I/O/MC3-2 (io), 32 I/O/MC3-3 (io), 34 I/O/MC3-5 (io), 35 I/O/MC3-6 (io), 36 I/O/MC3-4 (io), 37 I/O/MC3-8 (io), 38 I/O/MC3-9 (io), 39 I/O/MC3-11 (io), 41 I/O/MC3-12 (io), 42 I/O/MC3-14 (io), 43 I/O/MC3-15 (io), 44 I/O/MC3-16 (io), 45 I/O/MC3-10 (io), 51 I/O/MC3-17 (io)
part D pins: 82 I/O/MC4-4 (io), 83 I/O/MC4-2 (io), 84 I/O/MC4-3 (io), 87 I/O/MC4-5 (io), 88 I/O/MC4-6 (io), 89 I/O/MC4-8 (io), 91 I/O/MC4-9 (io), 92 I/O/MC4-11 (io), 93 I/O/MC4-12 (io), 94 I/O/MC4-16 (io), 95 I/O/MC4-14 (io), 96 I/O/MC4-15 (io), 97 I/O/MC4-17 (io)
part E pins: 48 I/O/MC5-4 (io), 52 I/O/MC5-2 (io), 54 I/O/MC5-3 (io), 55 I/O/MC5-5 (io), 56 I/O/MC5-6 (io), 57 I/O/MC5-8 (io), 58 I/O/MC5-9 (io), 60 I/O/MC5-11 (io), 61 I/O/MC5-16 (io), 62 I/O/MC5-12 (io), 63 I/O/MC5-14 (io), 65 I/O/MC5-15 (io), 66 I/O/MC5-17 (io)
part F pins: 67 I/O/MC6-2 (io), 68 I/O/MC6-3 (io), 69 I/O/MC6-5 (io), 70 I/O/MC6-6 (io), 72 I/O/MC6-8 (io), 73 I/O/MC6-9 (io), 74 I/O/MC6-11 (io), 75 I/O/MC6-4 (io), 76 I/O/MC6-12 (io), 78 I/O/MC6-14 (io), 79 I/O/MC6-15 (io), 80 I/O/MC6-17 (io), 81 I/O/MC6-16 (io)
part G pins: 47 TDI (in), 49 TMS (in), 50 TCK (in), 85 TDO (out)
part H pins: 7 VCC INT (power), 28 VCC IO (power), 40 VCC IO (power), 53 VCC IO (power), 59 VCC INT (power), 90 VCC IO (power), 100 VCC INT (power)
part I pins: 2 GND (power), 23 GND (power), 33 GND (power), 46 GND (power), 64 GND (power), 71 GND (power), 77 GND (power), 86 GND (power)
part A text: BANK 1
part B text: BANK 2
part C text: BANK 3
part D text: BANK 4
part E text: BANK 5
part F text: BANK 6

## XC95108-7PQ160C
designator U?
XC9500 5V, 108 Macrocell CPLD, 108 User I/Os, 160-Pin PQFP, Commercial Grade; Published: 8-Jun-2000; LatestRevisionDate: 18-Nov-2009; LatestRevisionNote: Updated to family datasheet version 5.5 Jun-2007.; DatasheetVersion: ver4.4, Apr-2006; PackageVersion: ver1.2, Jun-2004; PackageReference: PQ160; Publisher: Altium Limited; PackageDescription: 160-Pin Plastic Quad Flat Pack (PQ160); Supplier 1: Digi-Key; Supplier Part Number 1: XC95108-7PQ160C-ND; Code_JEDEC: MS-022-DD1; Code_IPC: QFP65P3120X3120-160; ComponentLink1Description: XC95108 Datasheet; ComponentLink1URL: http://www.xilinx.com/support/documentation/data_sheets/DS066.pdf; ComponentLink2Description: PQ160 Package Drawing; ComponentLink2URL: http://www.xilinx.com/support/documentation/package_specs/pq160.pdf; ComponentLink3Description: XC9500 Documents; ComponentLink3URL: http://www.xilinx.com/support/documentation/xc9500.htm; ComponentLink4Description: Xilinx.com Home; ComponentLink4URL: http://www.xilinx.com
footprint PQ160_N (QFP, 160-Leads, Body 28x28mm, Pitch 0.65mm, IPC Medium Density)
footprint PQ160_L (QFP, 160-Leads, Body 28x28mm, Pitch 0.65mm, IPC High Density)
footprint PQ160_M (QFP, 160-Leads, Body 28x28mm, Pitch 0.65mm, IPC Low Density)
signal-integrity model XC95108_PQ160 (XC9500)
part A pins: 21 I/O/MC1-2 (io), 22 I/O/MC1-3 (io), 23 I/O/MC1-5 (io), 24 I/O/MC1-6 (io), 25 I/O/MC1-1 (io), 26 I/O/MC1-8 (io), 27 I/O/MC1-7 (io), 28 I/O/MC1-9 (io), 29 I/O/MC1-4 (io), 30 I/O/MC1-11 (io), 33 I/O/GCK1/MC1-12 (io), 34 I/O/MC1-13 (io), 35 I/O/GCK2/MC1-14 (io), 36 I/O/MC1-10 (io), 37 I/O/MC1-15 (io), 42 I/O/GCK3/MC1-16 (io), 43 I/O/MC1-18 (io), 44 I/O/MC1-17 (io)
part B pins: 2 I/O/MC2-6 (io), 4 I/O/MC2-4 (io), 6 I/O/GTS1/MC2-8 (io), 8 I/O/GTS2/MC2-9 (io), 9 I/O/MC2-7 (io), 11 I/O/MC2-11 (io), 12 I/O/MC2-10 (io), 13 I/O/MC2-12 (io), 14 I/O/MC2-13 (io), 15 I/O/MC2-14 (io), 16 I/O/MC2-18 (io), 17 I/O/MC2-15 (io), 18 I/O/MC2-16 (io), 19 I/O/MC2-17 (io), 154 I/O/MC2-2 (io), 156 I/O/MC2-3 (io), 158 I/O/MC2-1 (io), 159 I/O/GSR/MC2-5 (io)
part C pins: 45 I/O/MC3-1 (io), 47 I/O/MC3-2 (io), 49 I/O/MC3-3 (io), 50 I/O/MC3-7 (io), 52 I/O/MC3-13 (io), 54 I/O/MC3-5 (io), 56 I/O/MC3-6 (io), 57 I/O/MC3-4 (io), 58 I/O/MC3-8 (io), 59 I/O/MC3-9 (io), 60 I/O/MC3-11 (io), 62 I/O/MC3-12 (io), 63 I/O/MC3-14 (io), 64 I/O/MC3-15 (io), 68 I/O/MC3-16 (io), 69 I/O/MC3-10 (io), 74 I/O/MC3-18 (io), 77 I/O/MC3-17 (io)
part D pins: 123 I/O/MC4-1 (io), 128 I/O/MC4-7 (io), 133 I/O/MC4-4 (io), 134 I/O/MC4-2 (io), 135 I/O/MC4-3 (io), 138 I/O/MC4-5 (io), 139 I/O/MC4-6 (io), 140 I/O/MC4-8 (io), 142 I/O/MC4-9 (io), 143 I/O/MC4-11 (io), 144 I/O/MC4-12 (io), 145 I/O/MC4-16 (io), 146 I/O/MC4-14 (io), 147 I/O/MC4-10 (io), 148 I/O/MC4-15 (io), 152 I/O/MC4-17 (io), 153 I/O/MC4-13 (io), 155 I/O/MC4-18 (io)
part E pins: 72 I/O/MC5-4 (io), 76 I/O/MC5-1 (io), 78 I/O/MC5-7 (io), 79 I/O/MC5-2 (io), 82 I/O/MC5-3 (io), 84 I/O/MC5-10 (io), 86 I/O/MC5-5 (io), 87 I/O/MC5-13 (io), 88 I/O/MC5-6 (io), 89 I/O/MC5-18 (io), 90 I/O/MC5-8 (io), 92 I/O/MC5-9 (io), 95 I/O/MC5-11 (io), 96 I/O/MC5-16 (io), 97 I/O/MC5-12 (io), 98 I/O/MC5-14 (io), 101 I/O/MC5-15 (io), 102 I/O/MC5-17 (io)
part F pins: 91 I/O/MC6-1 (io), 103 I/O/MC6-2 (io), 104 I/O/MC6-3 (io), 105 I/O/MC6-7 (io), 106 I/O/MC6-5 (io), 107 I/O/MC6-10 (io), 108 I/O/MC6-6 (io), 111 I/O/MC6-8 (io), 112 I/O/MC6-13 (io), 113 I/O/MC6-9 (io), 114 I/O/MC6-18 (io), 115 I/O/MC6-11 (io), 116 I/O/MC6-4 (io), 117 I/O/MC6-12 (io), 122 I/O/MC6-14 (io), 124 I/O/MC6-15 (io), 126 I/O/MC6-17 (io), 129 I/O/MC6-16 (io)
part G pins: 71 TDI (in), 73 TMS (in), 75 TCK (in), 136 TDO (out)
part H pins: 1 VCC IO (power), 10 VCC INT (power), 41 VCC IO (power), 46 VCC INT (power), 61 VCC IO (power), 81 VCC IO (power), 94 VCC INT (power), 121 VCC IO (power), 141 VCC IO (power), 157 VCC INT (power)
part I pins: 20 GND (power), 31 GND (power), 40 GND (power), 51 GND (power), 70 GND (power), 80 GND (power), 99 GND (power), 100 GND (power), 110 GND (power), 120 GND (power), 127 GND (power), 137 GND (power), 160 GND (power)
part J pins: 3 NC, 5 NC, 7 NC, 32 NC, 38 NC, 39 NC, 48 NC, 53 NC, 55 NC, 65 NC, 66 NC, 67 NC, 83 NC, 85 NC, 93 NC, 109 NC, 118 NC, 119 NC, 125 NC, 130 NC, 131 NC, 132 NC, 149 NC, 150 NC, 151 NC
part A text: BANK 1
part B text: BANK 2
part C text: BANK 3
part D text: BANK 4
part E text: BANK 5
part F text: BANK 6

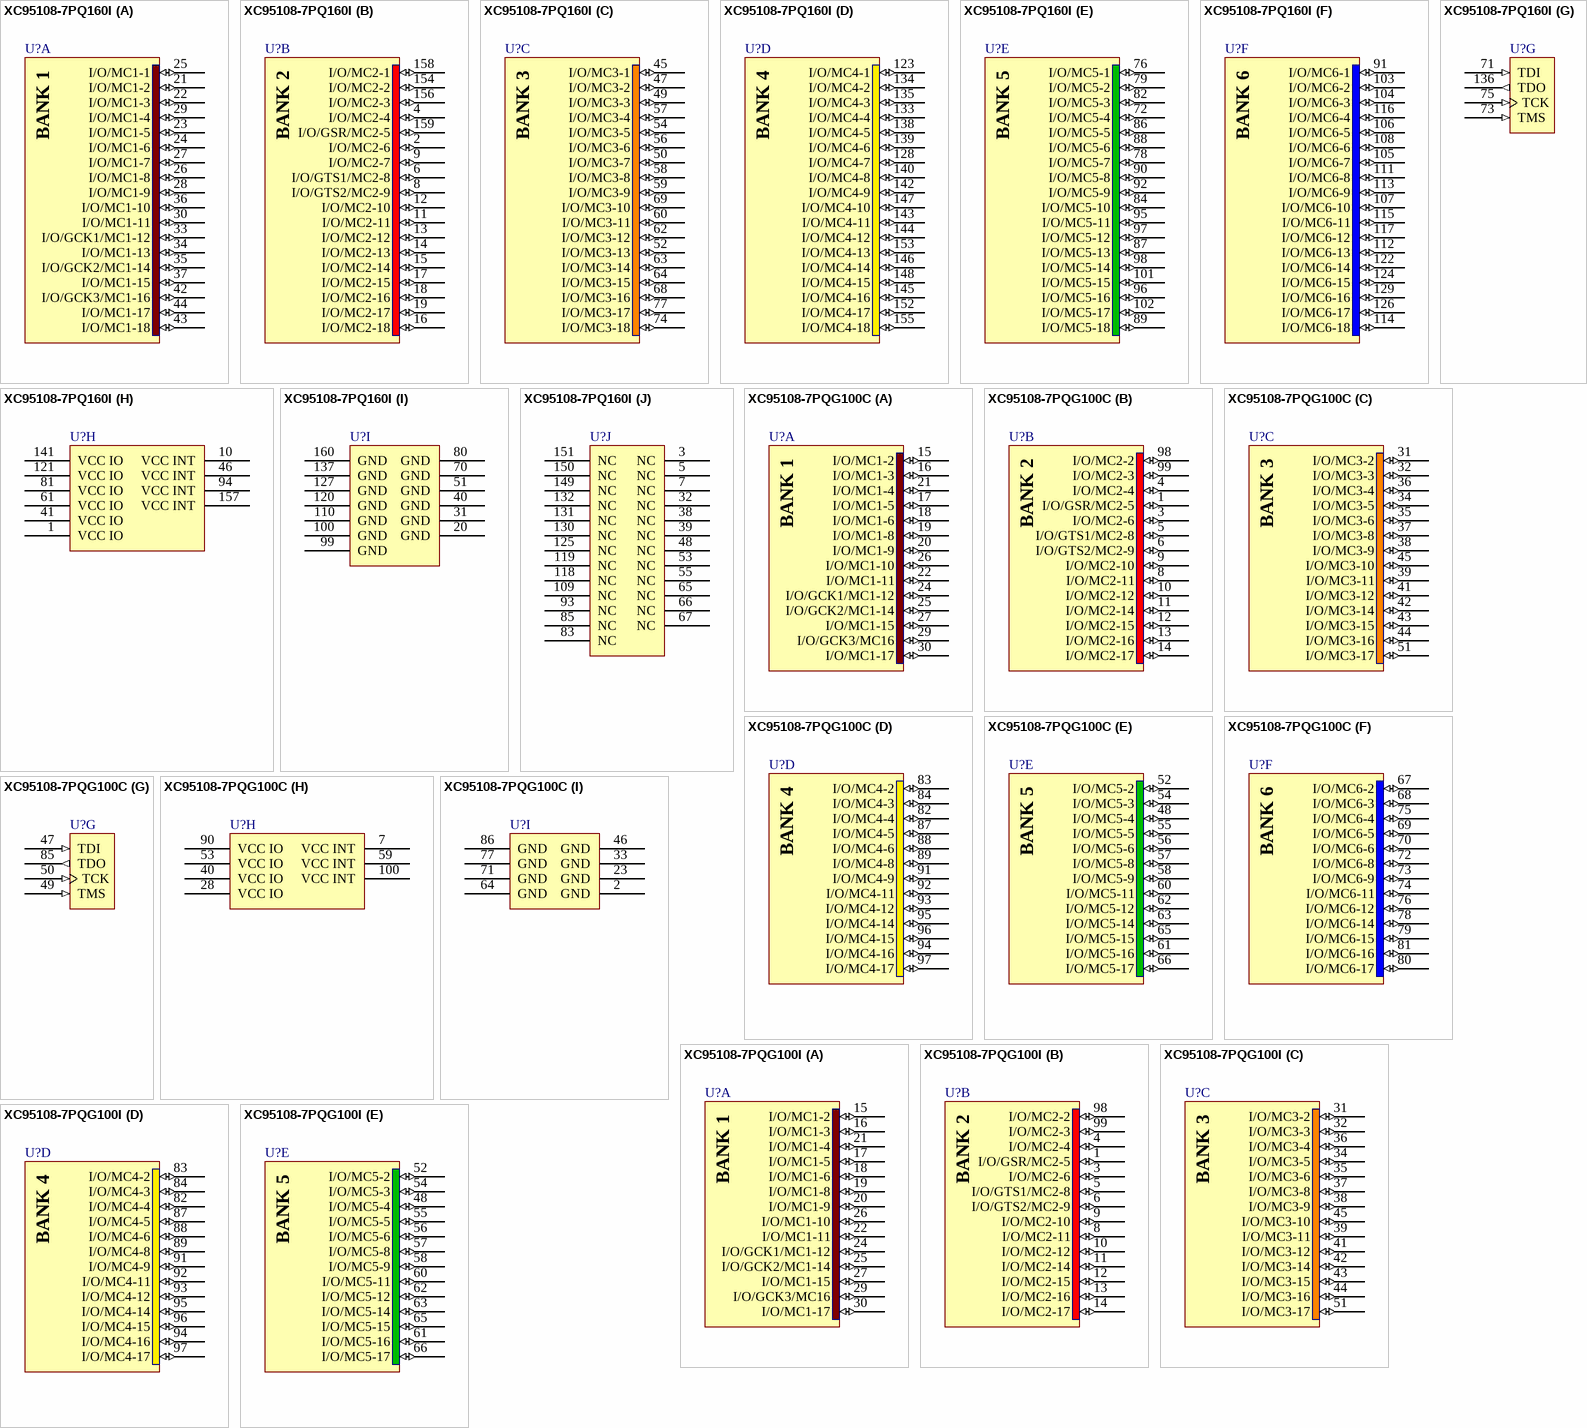
[diagram p21: symbols XC95108-7PQ160I to XC95108-7PQG100I]

## XC95108-7PQ160I
designator U?
XC9500 5V, 108 Macrocell CPLD, 108 User I/Os, 160-Pin PQFP, Industrial Grade; Published: 17-Sep-2003; LatestRevisionDate: 18-Nov-2009; LatestRevisionNote: Updated to family datasheet version 5.5 Jun-2007.; DatasheetVersion: ver4.4, Apr-2006; PackageVersion: ver1.2, Jun-2004; PackageReference: PQ160; Publisher: Altium Limited; PackageDescription: 160-Pin Plastic Quad Flat Pack (PQ160); Supplier 1: Digi-Key; Supplier Part Number 1: XC95108-7PQ160I-ND; Code_JEDEC: MS-022-DD1; Code_IPC: QFP65P3120X3120-160; ComponentLink1Description: XC95108 Datasheet; ComponentLink1URL: http://www.xilinx.com/support/documentation/data_sheets/DS066.pdf; ComponentLink2Description: PQ160 Package Drawing; ComponentLink2URL: http://www.xilinx.com/support/documentation/package_specs/pq160.pdf; ComponentLink3Description: XC9500 Documents; ComponentLink3URL: http://www.xilinx.com/support/documentation/xc9500.htm; ComponentLink4Description: Xilinx.com Home; ComponentLink4URL: http://www.xilinx.com
footprint PQ160_N (QFP, 160-Leads, Body 28x28mm, Pitch 0.65mm, IPC Medium Density)
footprint PQ160_L (QFP, 160-Leads, Body 28x28mm, Pitch 0.65mm, IPC High Density)
footprint PQ160_M (QFP, 160-Leads, Body 28x28mm, Pitch 0.65mm, IPC Low Density)
signal-integrity model XC95108_PQ160 (XC9500)
part A pins: 21 I/O/MC1-2 (io), 22 I/O/MC1-3 (io), 23 I/O/MC1-5 (io), 24 I/O/MC1-6 (io), 25 I/O/MC1-1 (io), 26 I/O/MC1-8 (io), 27 I/O/MC1-7 (io), 28 I/O/MC1-9 (io), 29 I/O/MC1-4 (io), 30 I/O/MC1-11 (io), 33 I/O/GCK1/MC1-12 (io), 34 I/O/MC1-13 (io), 35 I/O/GCK2/MC1-14 (io), 36 I/O/MC1-10 (io), 37 I/O/MC1-15 (io), 42 I/O/GCK3/MC1-16 (io), 43 I/O/MC1-18 (io), 44 I/O/MC1-17 (io)
part B pins: 2 I/O/MC2-6 (io), 4 I/O/MC2-4 (io), 6 I/O/GTS1/MC2-8 (io), 8 I/O/GTS2/MC2-9 (io), 9 I/O/MC2-7 (io), 11 I/O/MC2-11 (io), 12 I/O/MC2-10 (io), 13 I/O/MC2-12 (io), 14 I/O/MC2-13 (io), 15 I/O/MC2-14 (io), 16 I/O/MC2-18 (io), 17 I/O/MC2-15 (io), 18 I/O/MC2-16 (io), 19 I/O/MC2-17 (io), 154 I/O/MC2-2 (io), 156 I/O/MC2-3 (io), 158 I/O/MC2-1 (io), 159 I/O/GSR/MC2-5 (io)
part C pins: 45 I/O/MC3-1 (io), 47 I/O/MC3-2 (io), 49 I/O/MC3-3 (io), 50 I/O/MC3-7 (io), 52 I/O/MC3-13 (io), 54 I/O/MC3-5 (io), 56 I/O/MC3-6 (io), 57 I/O/MC3-4 (io), 58 I/O/MC3-8 (io), 59 I/O/MC3-9 (io), 60 I/O/MC3-11 (io), 62 I/O/MC3-12 (io), 63 I/O/MC3-14 (io), 64 I/O/MC3-15 (io), 68 I/O/MC3-16 (io), 69 I/O/MC3-10 (io), 74 I/O/MC3-18 (io), 77 I/O/MC3-17 (io)
part D pins: 123 I/O/MC4-1 (io), 128 I/O/MC4-7 (io), 133 I/O/MC4-4 (io), 134 I/O/MC4-2 (io), 135 I/O/MC4-3 (io), 138 I/O/MC4-5 (io), 139 I/O/MC4-6 (io), 140 I/O/MC4-8 (io), 142 I/O/MC4-9 (io), 143 I/O/MC4-11 (io), 144 I/O/MC4-12 (io), 145 I/O/MC4-16 (io), 146 I/O/MC4-14 (io), 147 I/O/MC4-10 (io), 148 I/O/MC4-15 (io), 152 I/O/MC4-17 (io), 153 I/O/MC4-13 (io), 155 I/O/MC4-18 (io)
part E pins: 72 I/O/MC5-4 (io), 76 I/O/MC5-1 (io), 78 I/O/MC5-7 (io), 79 I/O/MC5-2 (io), 82 I/O/MC5-3 (io), 84 I/O/MC5-10 (io), 86 I/O/MC5-5 (io), 87 I/O/MC5-13 (io), 88 I/O/MC5-6 (io), 89 I/O/MC5-18 (io), 90 I/O/MC5-8 (io), 92 I/O/MC5-9 (io), 95 I/O/MC5-11 (io), 96 I/O/MC5-16 (io), 97 I/O/MC5-12 (io), 98 I/O/MC5-14 (io), 101 I/O/MC5-15 (io), 102 I/O/MC5-17 (io)
part F pins: 91 I/O/MC6-1 (io), 103 I/O/MC6-2 (io), 104 I/O/MC6-3 (io), 105 I/O/MC6-7 (io), 106 I/O/MC6-5 (io), 107 I/O/MC6-10 (io), 108 I/O/MC6-6 (io), 111 I/O/MC6-8 (io), 112 I/O/MC6-13 (io), 113 I/O/MC6-9 (io), 114 I/O/MC6-18 (io), 115 I/O/MC6-11 (io), 116 I/O/MC6-4 (io), 117 I/O/MC6-12 (io), 122 I/O/MC6-14 (io), 124 I/O/MC6-15 (io), 126 I/O/MC6-17 (io), 129 I/O/MC6-16 (io)
part G pins: 71 TDI (in), 73 TMS (in), 75 TCK (in), 136 TDO (out)
part H pins: 1 VCC IO (power), 10 VCC INT (power), 41 VCC IO (power), 46 VCC INT (power), 61 VCC IO (power), 81 VCC IO (power), 94 VCC INT (power), 121 VCC IO (power), 141 VCC IO (power), 157 VCC INT (power)
part I pins: 20 GND (power), 31 GND (power), 40 GND (power), 51 GND (power), 70 GND (power), 80 GND (power), 99 GND (power), 100 GND (power), 110 GND (power), 120 GND (power), 127 GND (power), 137 GND (power), 160 GND (power)
part J pins: 3 NC, 5 NC, 7 NC, 32 NC, 38 NC, 39 NC, 48 NC, 53 NC, 55 NC, 65 NC, 66 NC, 67 NC, 83 NC, 85 NC, 93 NC, 109 NC, 118 NC, 119 NC, 125 NC, 130 NC, 131 NC, 132 NC, 149 NC, 150 NC, 151 NC
part A text: BANK 1
part B text: BANK 2
part C text: BANK 3
part D text: BANK 4
part E text: BANK 5
part F text: BANK 6

## XC95108-7PQG100C
designator U?
XC9500 5V, 108 Macrocell CPLD, 81 User I/Os, 100-Pin PQFP, Commercial Grade, Pb-Free; Published: 8-Sep-2006; LatestRevisionDate: 18-Nov-2009; LatestRevisionNote: Updated to family datasheet version 5.5 Jun-2007.; DatasheetVersion: ver4.4, Apr-2006; PackageVersion: ver1.2, Oct-2002; PackageReference: PQG100; Publisher: Altium Limited; PackageDescription: 100-Pin Plastic Quad Flat Pack (PQG100) - Pb-Free; Code_IPC: QFP65P1720X2320-100; ComponentLink1Description: XC95108 Datasheet; ComponentLink1URL: http://www.xilinx.com/support/documentation/data_sheets/DS066.pdf; ComponentLink2Description: PQG100 Package Drawing; ComponentLink2URL: http://www.xilinx.com/support/documentation/package_specs/pq100.pdf; ComponentLink3Description: XC9500 Documents; ComponentLink3URL: http://www.xilinx.com/support/documentation/xc9500.htm; ComponentLink4Description: Xilinx.com Home; ComponentLink4URL: http://www.xilinx.com
footprint PQG100_N (QFP, 100-Leads, Body 20x14mm, Pitch 0.65mm, IPC Medium Density)
footprint PQG100_L (QFP, 100-Leads, Body 20x14mm, Pitch 0.65mm, IPC High Density)
footprint PQG100_M (QFP, 100-Leads, Body 20x14mm, Pitch 0.65mm, IPC Low Density)
signal-integrity model XC95108_PQG100 (XC9500)
part A pins: 15 I/O/MC1-2 (io), 16 I/O/MC1-3 (io), 17 I/O/MC1-5 (io), 18 I/O/MC1-6 (io), 19 I/O/MC1-8 (io), 20 I/O/MC1-9 (io), 21 I/O/MC1-4 (io), 22 I/O/MC1-11 (io), 24 I/O/GCK1/MC1-12 (io), 25 I/O/GCK2/MC1-14 (io), 26 I/O/MC1-10 (io), 27 I/O/MC1-15 (io), 29 I/O/GCK3/MC16 (io), 30 I/O/MC1-17 (io)
part B pins: 1 I/O/GSR/MC2-5 (io), 3 I/O/MC2-6 (io), 4 I/O/MC2-4 (io), 5 I/O/GTS1/MC2-8 (io), 6 I/O/GTS2/MC2-9 (io), 8 I/O/MC2-11 (io), 9 I/O/MC2-10 (io), 10 I/O/MC2-12 (io), 11 I/O/MC2-14 (io), 12 I/O/MC2-15 (io), 13 I/O/MC2-16 (io), 14 I/O/MC2-17 (io), 98 I/O/MC2-2 (io), 99 I/O/MC2-3 (io)
part C pins: 31 I/O/MC3-2 (io), 32 I/O/MC3-3 (io), 34 I/O/MC3-5 (io), 35 I/O/MC3-6 (io), 36 I/O/MC3-4 (io), 37 I/O/MC3-8 (io), 38 I/O/MC3-9 (io), 39 I/O/MC3-11 (io), 41 I/O/MC3-12 (io), 42 I/O/MC3-14 (io), 43 I/O/MC3-15 (io), 44 I/O/MC3-16 (io), 45 I/O/MC3-10 (io), 51 I/O/MC3-17 (io)
part D pins: 82 I/O/MC4-4 (io), 83 I/O/MC4-2 (io), 84 I/O/MC4-3 (io), 87 I/O/MC4-5 (io), 88 I/O/MC4-6 (io), 89 I/O/MC4-8 (io), 91 I/O/MC4-9 (io), 92 I/O/MC4-11 (io), 93 I/O/MC4-12 (io), 94 I/O/MC4-16 (io), 95 I/O/MC4-14 (io), 96 I/O/MC4-15 (io), 97 I/O/MC4-17 (io)
part E pins: 48 I/O/MC5-4 (io), 52 I/O/MC5-2 (io), 54 I/O/MC5-3 (io), 55 I/O/MC5-5 (io), 56 I/O/MC5-6 (io), 57 I/O/MC5-8 (io), 58 I/O/MC5-9 (io), 60 I/O/MC5-11 (io), 61 I/O/MC5-16 (io), 62 I/O/MC5-12 (io), 63 I/O/MC5-14 (io), 65 I/O/MC5-15 (io), 66 I/O/MC5-17 (io)
part F pins: 67 I/O/MC6-2 (io), 68 I/O/MC6-3 (io), 69 I/O/MC6-5 (io), 70 I/O/MC6-6 (io), 72 I/O/MC6-8 (io), 73 I/O/MC6-9 (io), 74 I/O/MC6-11 (io), 75 I/O/MC6-4 (io), 76 I/O/MC6-12 (io), 78 I/O/MC6-14 (io), 79 I/O/MC6-15 (io), 80 I/O/MC6-17 (io), 81 I/O/MC6-16 (io)
part G pins: 47 TDI (in), 49 TMS (in), 50 TCK (in), 85 TDO (out)
part H pins: 7 VCC INT (power), 28 VCC IO (power), 40 VCC IO (power), 53 VCC IO (power), 59 VCC INT (power), 90 VCC IO (power), 100 VCC INT (power)
part I pins: 2 GND (power), 23 GND (power), 33 GND (power), 46 GND (power), 64 GND (power), 71 GND (power), 77 GND (power), 86 GND (power)
part A text: BANK 1
part B text: BANK 2
part C text: BANK 3
part D text: BANK 4
part E text: BANK 5
part F text: BANK 6

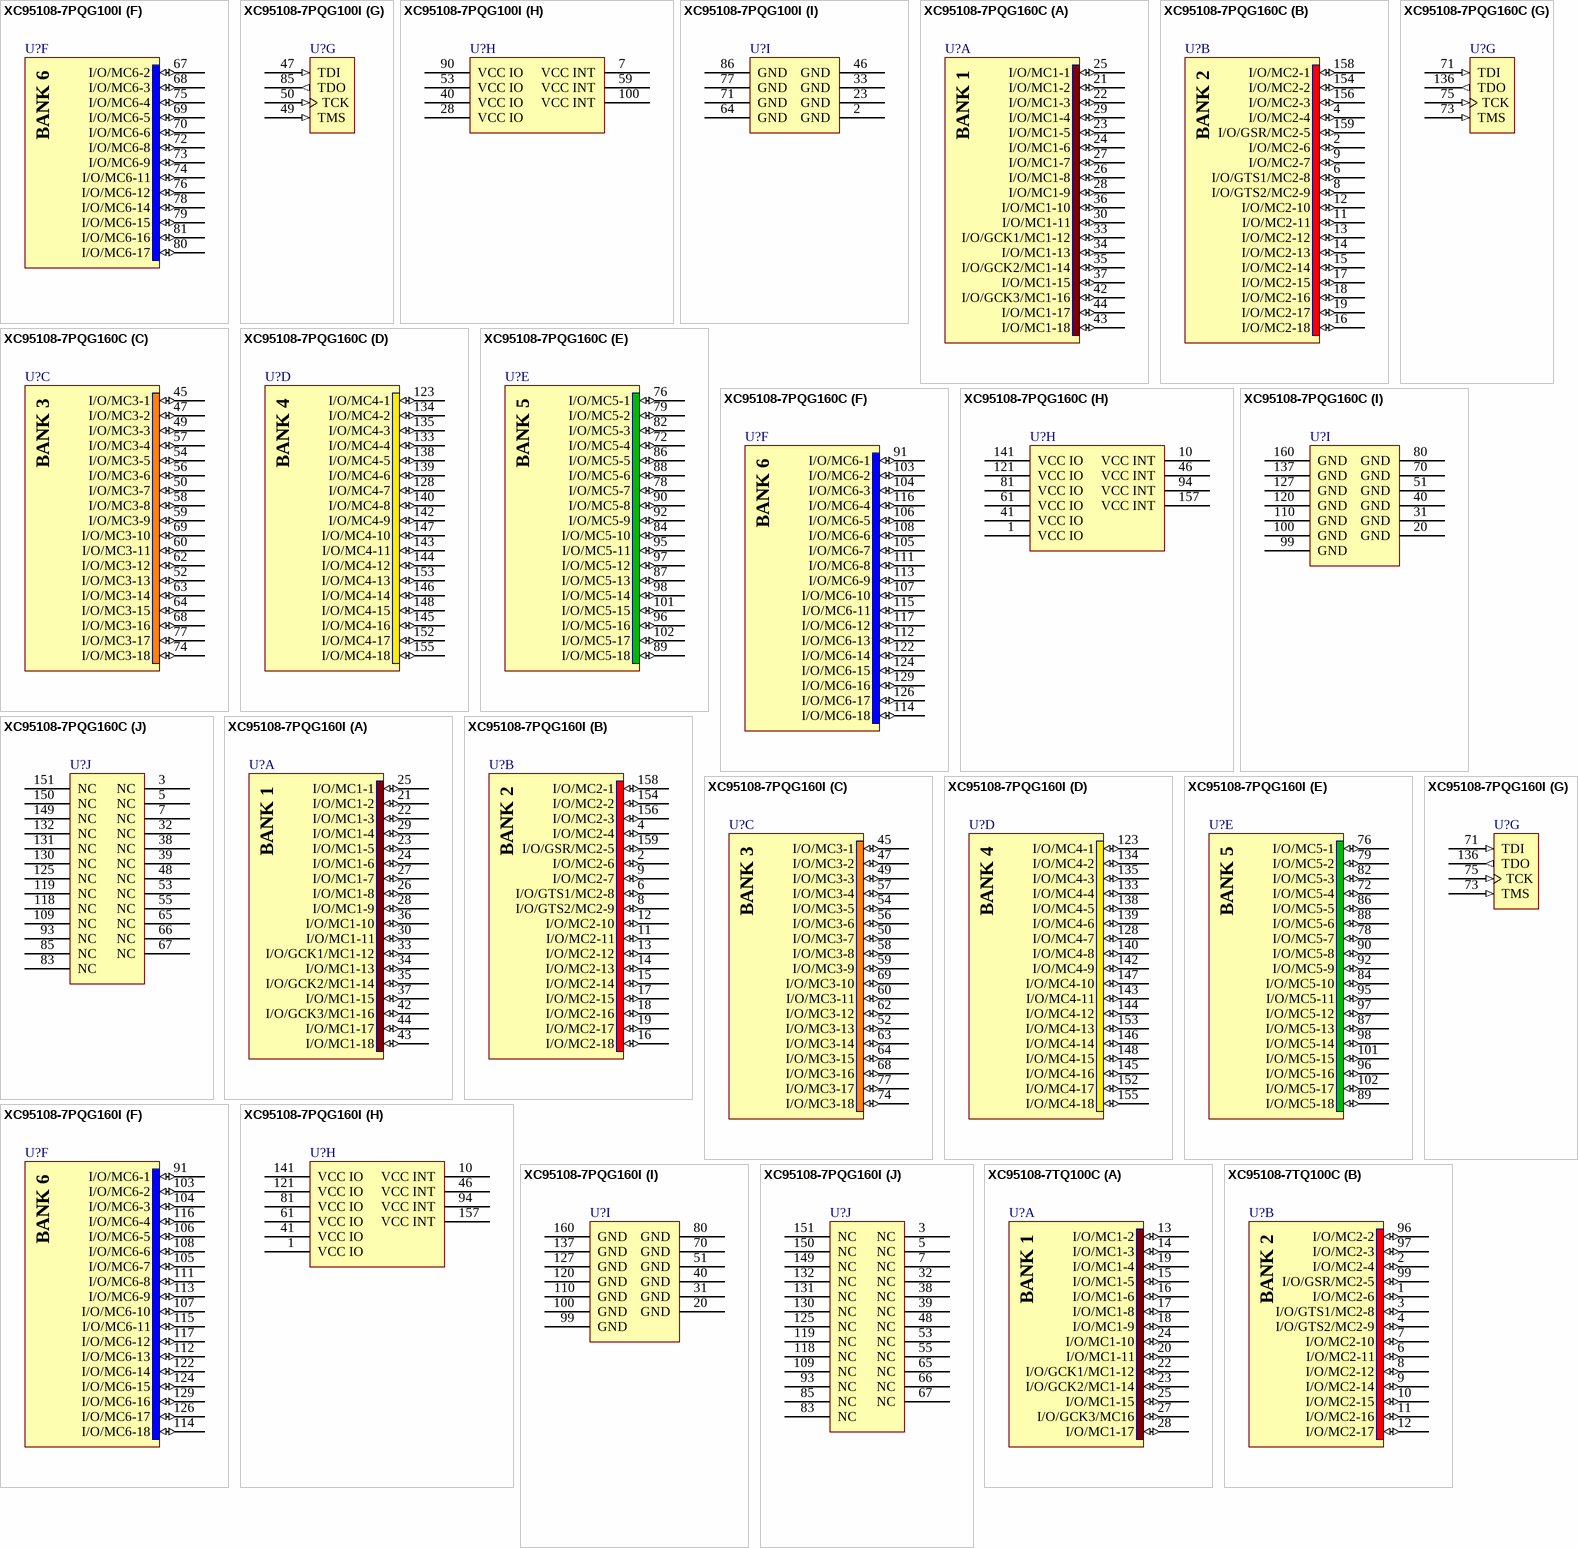
[diagram p22: symbols XC95108-7PQG100I to XC95108-7TQ100C]

## XC95108-7PQG100I
designator U?
XC9500 5V, 108 Macrocell CPLD, 81 User I/Os, 100-Pin PQFP, Industrial Grade, Pb-Free; Published: 8-Sep-2006; LatestRevisionDate: 18-Nov-2009; LatestRevisionNote: Updated to family datasheet version 5.5 Jun-2007.; DatasheetVersion: ver4.4, Apr-2006; PackageVersion: ver1.2, Oct-2002; PackageReference: PQG100; Publisher: Altium Limited; PackageDescription: 100-Pin Plastic Quad Flat Pack (PQG100) - Pb-Free; Code_IPC: QFP65P1720X2320-100; ComponentLink1Description: XC95108 Datasheet; ComponentLink1URL: http://www.xilinx.com/support/documentation/data_sheets/DS066.pdf; ComponentLink2Description: PQG100 Package Drawing; ComponentLink2URL: http://www.xilinx.com/support/documentation/package_specs/pq100.pdf; ComponentLink3Description: XC9500 Documents; ComponentLink3URL: http://www.xilinx.com/support/documentation/xc9500.htm; ComponentLink4Description: Xilinx.com Home; ComponentLink4URL: http://www.xilinx.com
footprint PQG100_N (QFP, 100-Leads, Body 20x14mm, Pitch 0.65mm, IPC Medium Density)
footprint PQG100_L (QFP, 100-Leads, Body 20x14mm, Pitch 0.65mm, IPC High Density)
footprint PQG100_M (QFP, 100-Leads, Body 20x14mm, Pitch 0.65mm, IPC Low Density)
signal-integrity model XC95108_PQG100 (XC9500)
part A pins: 15 I/O/MC1-2 (io), 16 I/O/MC1-3 (io), 17 I/O/MC1-5 (io), 18 I/O/MC1-6 (io), 19 I/O/MC1-8 (io), 20 I/O/MC1-9 (io), 21 I/O/MC1-4 (io), 22 I/O/MC1-11 (io), 24 I/O/GCK1/MC1-12 (io), 25 I/O/GCK2/MC1-14 (io), 26 I/O/MC1-10 (io), 27 I/O/MC1-15 (io), 29 I/O/GCK3/MC16 (io), 30 I/O/MC1-17 (io)
part B pins: 1 I/O/GSR/MC2-5 (io), 3 I/O/MC2-6 (io), 4 I/O/MC2-4 (io), 5 I/O/GTS1/MC2-8 (io), 6 I/O/GTS2/MC2-9 (io), 8 I/O/MC2-11 (io), 9 I/O/MC2-10 (io), 10 I/O/MC2-12 (io), 11 I/O/MC2-14 (io), 12 I/O/MC2-15 (io), 13 I/O/MC2-16 (io), 14 I/O/MC2-17 (io), 98 I/O/MC2-2 (io), 99 I/O/MC2-3 (io)
part C pins: 31 I/O/MC3-2 (io), 32 I/O/MC3-3 (io), 34 I/O/MC3-5 (io), 35 I/O/MC3-6 (io), 36 I/O/MC3-4 (io), 37 I/O/MC3-8 (io), 38 I/O/MC3-9 (io), 39 I/O/MC3-11 (io), 41 I/O/MC3-12 (io), 42 I/O/MC3-14 (io), 43 I/O/MC3-15 (io), 44 I/O/MC3-16 (io), 45 I/O/MC3-10 (io), 51 I/O/MC3-17 (io)
part D pins: 82 I/O/MC4-4 (io), 83 I/O/MC4-2 (io), 84 I/O/MC4-3 (io), 87 I/O/MC4-5 (io), 88 I/O/MC4-6 (io), 89 I/O/MC4-8 (io), 91 I/O/MC4-9 (io), 92 I/O/MC4-11 (io), 93 I/O/MC4-12 (io), 94 I/O/MC4-16 (io), 95 I/O/MC4-14 (io), 96 I/O/MC4-15 (io), 97 I/O/MC4-17 (io)
part E pins: 48 I/O/MC5-4 (io), 52 I/O/MC5-2 (io), 54 I/O/MC5-3 (io), 55 I/O/MC5-5 (io), 56 I/O/MC5-6 (io), 57 I/O/MC5-8 (io), 58 I/O/MC5-9 (io), 60 I/O/MC5-11 (io), 61 I/O/MC5-16 (io), 62 I/O/MC5-12 (io), 63 I/O/MC5-14 (io), 65 I/O/MC5-15 (io), 66 I/O/MC5-17 (io)
part F pins: 67 I/O/MC6-2 (io), 68 I/O/MC6-3 (io), 69 I/O/MC6-5 (io), 70 I/O/MC6-6 (io), 72 I/O/MC6-8 (io), 73 I/O/MC6-9 (io), 74 I/O/MC6-11 (io), 75 I/O/MC6-4 (io), 76 I/O/MC6-12 (io), 78 I/O/MC6-14 (io), 79 I/O/MC6-15 (io), 80 I/O/MC6-17 (io), 81 I/O/MC6-16 (io)
part G pins: 47 TDI (in), 49 TMS (in), 50 TCK (in), 85 TDO (out)
part H pins: 7 VCC INT (power), 28 VCC IO (power), 40 VCC IO (power), 53 VCC IO (power), 59 VCC INT (power), 90 VCC IO (power), 100 VCC INT (power)
part I pins: 2 GND (power), 23 GND (power), 33 GND (power), 46 GND (power), 64 GND (power), 71 GND (power), 77 GND (power), 86 GND (power)
part A text: BANK 1
part B text: BANK 2
part C text: BANK 3
part D text: BANK 4
part E text: BANK 5
part F text: BANK 6

## XC95108-7PQG160C
designator U?
XC9500 5V, 108 Macrocell CPLD, 108 User I/Os, 160-Pin PQFP, Commercial Grade, Pb-Free; Published: 8-Sep-2006; LatestRevisionDate: 18-Nov-2009; LatestRevisionNote: Updated to family datasheet version 5.5 Jun-2007.; DatasheetVersion: ver4.4, Apr-2006; PackageVersion: ver1.2, Jun-2004; PackageReference: PQG160; Publisher: Altium Limited; PackageDescription: 160-Pin Plastic Quad Flat Pack (PQG160) - Pb-Free; Code_JEDEC: MS-022-DD1; Code_IPC: QFP65P3120X3120-160; ComponentLink1Description: XC95108 Datasheet; ComponentLink1URL: http://www.xilinx.com/support/documentation/data_sheets/DS066.pdf; ComponentLink2Description: PQG160 Package Drawing; ComponentLink2URL: http://www.xilinx.com/support/documentation/package_specs/pq160.pdf; ComponentLink3Description: XC9500 Documents; ComponentLink3URL: http://www.xilinx.com/support/documentation/xc9500.htm; ComponentLink4Description: Xilinx.com Home; ComponentLink4URL: http://www.xilinx.com
footprint PQG160_N (QFP, 160-Leads, Body 28x28mm, Pitch 0.65mm, IPC Medium Density)
footprint PQG160_L (QFP, 160-Leads, Body 28x28mm, Pitch 0.65mm, IPC High Density)
footprint PQG160_M (QFP, 160-Leads, Body 28x28mm, Pitch 0.65mm, IPC Low Density)
signal-integrity model XC95108_PQG160 (XC9500)
part A pins: 21 I/O/MC1-2 (io), 22 I/O/MC1-3 (io), 23 I/O/MC1-5 (io), 24 I/O/MC1-6 (io), 25 I/O/MC1-1 (io), 26 I/O/MC1-8 (io), 27 I/O/MC1-7 (io), 28 I/O/MC1-9 (io), 29 I/O/MC1-4 (io), 30 I/O/MC1-11 (io), 33 I/O/GCK1/MC1-12 (io), 34 I/O/MC1-13 (io), 35 I/O/GCK2/MC1-14 (io), 36 I/O/MC1-10 (io), 37 I/O/MC1-15 (io), 42 I/O/GCK3/MC1-16 (io), 43 I/O/MC1-18 (io), 44 I/O/MC1-17 (io)
part B pins: 2 I/O/MC2-6 (io), 4 I/O/MC2-4 (io), 6 I/O/GTS1/MC2-8 (io), 8 I/O/GTS2/MC2-9 (io), 9 I/O/MC2-7 (io), 11 I/O/MC2-11 (io), 12 I/O/MC2-10 (io), 13 I/O/MC2-12 (io), 14 I/O/MC2-13 (io), 15 I/O/MC2-14 (io), 16 I/O/MC2-18 (io), 17 I/O/MC2-15 (io), 18 I/O/MC2-16 (io), 19 I/O/MC2-17 (io), 154 I/O/MC2-2 (io), 156 I/O/MC2-3 (io), 158 I/O/MC2-1 (io), 159 I/O/GSR/MC2-5 (io)
part C pins: 45 I/O/MC3-1 (io), 47 I/O/MC3-2 (io), 49 I/O/MC3-3 (io), 50 I/O/MC3-7 (io), 52 I/O/MC3-13 (io), 54 I/O/MC3-5 (io), 56 I/O/MC3-6 (io), 57 I/O/MC3-4 (io), 58 I/O/MC3-8 (io), 59 I/O/MC3-9 (io), 60 I/O/MC3-11 (io), 62 I/O/MC3-12 (io), 63 I/O/MC3-14 (io), 64 I/O/MC3-15 (io), 68 I/O/MC3-16 (io), 69 I/O/MC3-10 (io), 74 I/O/MC3-18 (io), 77 I/O/MC3-17 (io)
part D pins: 123 I/O/MC4-1 (io), 128 I/O/MC4-7 (io), 133 I/O/MC4-4 (io), 134 I/O/MC4-2 (io), 135 I/O/MC4-3 (io), 138 I/O/MC4-5 (io), 139 I/O/MC4-6 (io), 140 I/O/MC4-8 (io), 142 I/O/MC4-9 (io), 143 I/O/MC4-11 (io), 144 I/O/MC4-12 (io), 145 I/O/MC4-16 (io), 146 I/O/MC4-14 (io), 147 I/O/MC4-10 (io), 148 I/O/MC4-15 (io), 152 I/O/MC4-17 (io), 153 I/O/MC4-13 (io), 155 I/O/MC4-18 (io)
part E pins: 72 I/O/MC5-4 (io), 76 I/O/MC5-1 (io), 78 I/O/MC5-7 (io), 79 I/O/MC5-2 (io), 82 I/O/MC5-3 (io), 84 I/O/MC5-10 (io), 86 I/O/MC5-5 (io), 87 I/O/MC5-13 (io), 88 I/O/MC5-6 (io), 89 I/O/MC5-18 (io), 90 I/O/MC5-8 (io), 92 I/O/MC5-9 (io), 95 I/O/MC5-11 (io), 96 I/O/MC5-16 (io), 97 I/O/MC5-12 (io), 98 I/O/MC5-14 (io), 101 I/O/MC5-15 (io), 102 I/O/MC5-17 (io)
part F pins: 91 I/O/MC6-1 (io), 103 I/O/MC6-2 (io), 104 I/O/MC6-3 (io), 105 I/O/MC6-7 (io), 106 I/O/MC6-5 (io), 107 I/O/MC6-10 (io), 108 I/O/MC6-6 (io), 111 I/O/MC6-8 (io), 112 I/O/MC6-13 (io), 113 I/O/MC6-9 (io), 114 I/O/MC6-18 (io), 115 I/O/MC6-11 (io), 116 I/O/MC6-4 (io), 117 I/O/MC6-12 (io), 122 I/O/MC6-14 (io), 124 I/O/MC6-15 (io), 126 I/O/MC6-17 (io), 129 I/O/MC6-16 (io)
part G pins: 71 TDI (in), 73 TMS (in), 75 TCK (in), 136 TDO (out)
part H pins: 1 VCC IO (power), 10 VCC INT (power), 41 VCC IO (power), 46 VCC INT (power), 61 VCC IO (power), 81 VCC IO (power), 94 VCC INT (power), 121 VCC IO (power), 141 VCC IO (power), 157 VCC INT (power)
part I pins: 20 GND (power), 31 GND (power), 40 GND (power), 51 GND (power), 70 GND (power), 80 GND (power), 99 GND (power), 100 GND (power), 110 GND (power), 120 GND (power), 127 GND (power), 137 GND (power), 160 GND (power)
part J pins: 3 NC, 5 NC, 7 NC, 32 NC, 38 NC, 39 NC, 48 NC, 53 NC, 55 NC, 65 NC, 66 NC, 67 NC, 83 NC, 85 NC, 93 NC, 109 NC, 118 NC, 119 NC, 125 NC, 130 NC, 131 NC, 132 NC, 149 NC, 150 NC, 151 NC
part A text: BANK 1
part B text: BANK 2
part C text: BANK 3
part D text: BANK 4
part E text: BANK 5
part F text: BANK 6